# Altium schematic symbol library connector.SchLib: 122 symbols (part 1 of 2)
Pins are listed as number, name and electrical type; pins without a type are passive.

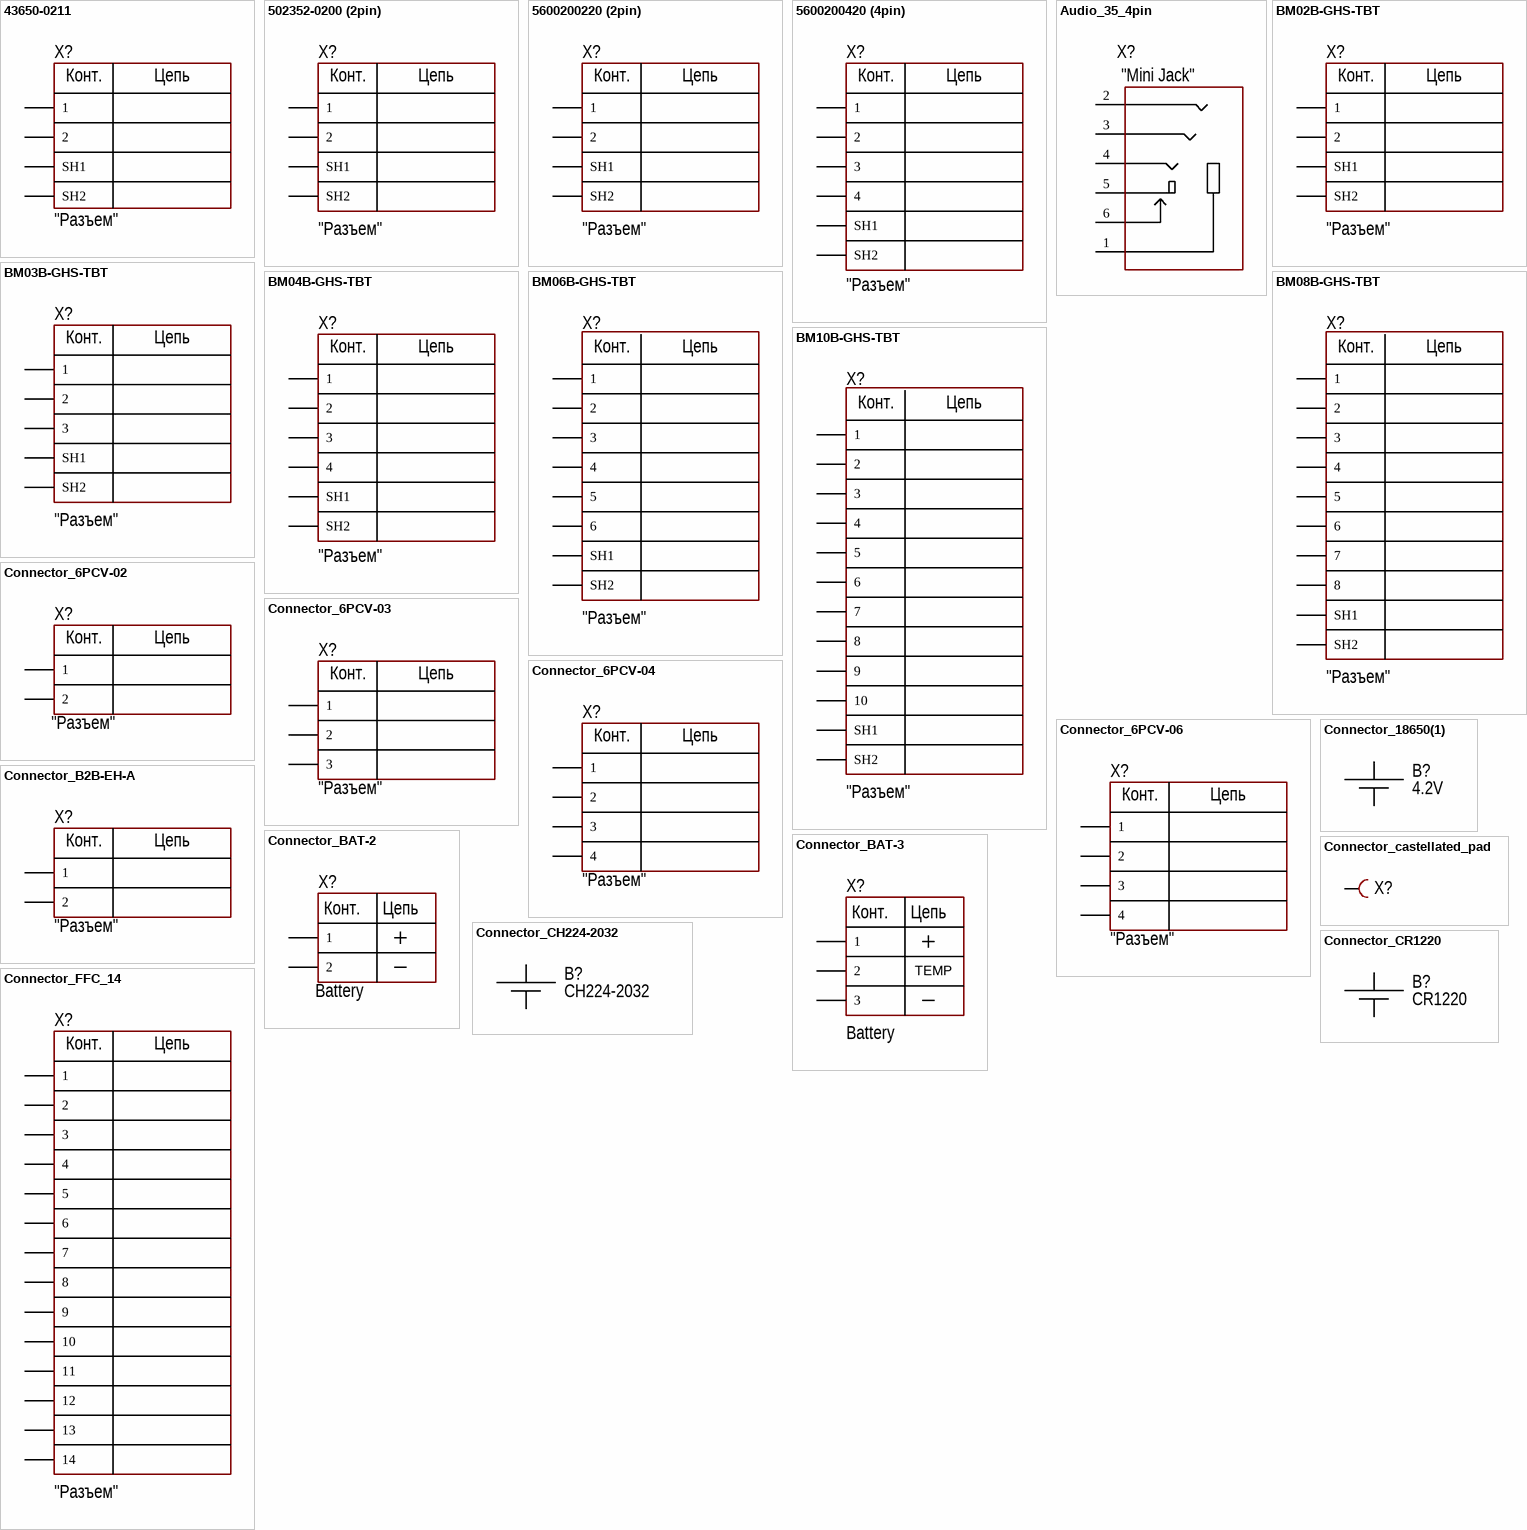
[diagram p0: symbols 43650-0211 to Connector_FFC_14]

## 43650-0211
designator X?  CommentText: "Разъем"
Manufacturer: Molex; ValueManufacturerPartNumber: Connector, 2pin, 3mm, 600VAC, 8.5A; PartNumber: 43650-0211; TypeConnector: Connector; VoltageMax: 600VAC; Pitch: 3mm; CurrentMax: 8.5A; Multichannel: 2pin; HelpURL: https://www.mouser.ee/ProductDetail/Molex/43650-0211?qs=z57USrEQgt0F0sS1hGS9Bw%3D%3D
footprint CON: 43650-0211 (MicroFit 3.0 2pin)
pins: 1, 2, S1 SH1 (power), S2 SH2 (power)
text: Конт.; Цепь

## 502352-0200 (2pin)
designator X?  CommentText: "Разъем"
Manufacturer: Molex; ValueManufacturerPartNumber: Connector, 2pin, 2mm, 125VAC, 3A; PartNumber: 502352-0200; TypeConnector: Connector; VoltageMax: 125VAC; Pitch: 2mm; CurrentMax: 3A; Multichannel: 2pin; HelpURL: https://www.molex.com/en-us/products/part-detail/5023520202?display=pdf
footprint CON: 502352-0200
pins: 1, 2, S1 SH1 (power), S2 SH2 (power)
text: Конт.; Цепь

## 5600200220 (2pin)
designator X?  CommentText: "Разъем"
Manufacturer: Molex; ValueManufacturerPartNumber: Connector, 2pin, 2mm, 125VAC, 3A; PartNumber: 5600200220; TypeConnector: Connector; VoltageMax: 125VAC; Pitch: 2mm; CurrentMax: 3A; Multichannel: 2pin; HelpURL: https://www.molex.com/en-us/products/part-detail/5600200220?display=pdf
footprint CON: 5600200220
pins: 1, 2, S1 SH1 (power), S2 SH2 (power)
text: Конт.; Цепь

## 5600200420 (4pin)
designator X?  CommentText: "Разъем"
Manufacturer: Molex; ValueManufacturerPartNumber: Connector, 4pin, 2mm, 125VAC, 3A; PartNumber: 5600200420; TypeConnector: Connector; VoltageMax: 125VAC; Pitch: 2mm; CurrentMax: 3A; Multichannel: 4pin; HelpURL: https://www.molex.com/en-us/products/part-detail/5600200420?display=pdf
footprint CON: 5600200420
pins: 1, 2, 3, 4, S1 SH1 (power), S2 SH2 (power)
text: Конт.; Цепь

## Audio_35_4pin
designator X?  CommentText: "Mini Jack"
Manufacturer: XKB Connectivity; PartNumber: PJ-3701-SMT; TypeConnector: Connector Audio; HelpURL: https://datasheet.lcsc.com/lcsc/2110112030_XKB-Connectivity-PJ-3701-SMT_C2684645.pdf; ValueManufacturerPartNumber: =TypeConnector+', '+Impedance+', '+Frequency
footprint CON: PJ-3701-SMT (Mini Jack)
pins: 1, 2, 3, 4, 5, 6

## BM02B-GHS-TBT
designator X?  CommentText: "Разъем"
Manufacturer: JST; ValueManufacturerPartNumber: Connector, 2pin, 1.25mm, 500VAC, 1A; PartNumber: BM02B-GHS-TBT; TypeConnector: Connector; VoltageMax: 500VAC; Pitch: 1.25mm; CurrentMax: 1A; Multichannel: 2pin; HelpURL: https://datasheet.lcsc.com/lcsc/2304140030_JST-Sales-America-BM04B-GHS-TBT-LF-SN_C161692.pdf
footprint CON: BM02B-GHS-TBT
pins: 1, 2, S1 SH1 (power), S2 SH2 (power)
text: Конт.; Цепь

## BM03B-GHS-TBT
designator X?  CommentText: "Разъем"
Manufacturer: JST; ValueManufacturerPartNumber: Connector, 3pin, 1.25mm, 500VAC, 1A; PartNumber: BM03B-GHS-TBT; TypeConnector: Connector; VoltageMax: 500VAC; Pitch: 1.25mm; CurrentMax: 1A; Multichannel: 3pin; HelpURL: https://datasheet.lcsc.com/lcsc/2304140030_JST-Sales-America-BM04B-GHS-TBT-LF-SN_C161692.pdf
footprint CON: BM03B-GHS-TBT
pins: 1, 2, 3, S1 SH1 (power), S2 SH2 (power)
text: Конт.; Цепь

## BM04B-GHS-TBT
designator X?  CommentText: "Разъем"
Manufacturer: JST; ValueManufacturerPartNumber: Connector, 4pin, 1.25mm, 500VAC, 1A; PartNumber: BM04B-GHS-TBT; TypeConnector: Connector; VoltageMax: 500VAC; Pitch: 1.25mm; CurrentMax: 1A; Multichannel: 4pin; HelpURL: https://datasheet.lcsc.com/lcsc/2304140030_JST-Sales-America-BM04B-GHS-TBT-LF-SN_C161692.pdf
footprint CON: BM04B-GHS-TBT
pins: 1, 2, 3, 4, S1 SH1 (power), S2 SH2 (power)
text: Конт.; Цепь

## BM06B-GHS-TBT
designator X?  CommentText: "Разъем"
Manufacturer: JST; ValueManufacturerPartNumber: Connector, 6pin, 1.25mm, 500VAC, 1A; PartNumber: BM06B-GHS-TBT; TypeConnector: Connector; VoltageMax: 500VAC; Pitch: 1.25mm; CurrentMax: 1A; Multichannel: 6pin; HelpURL: https://datasheet.lcsc.com/lcsc/2304140030_JST-Sales-America-BM04B-GHS-TBT-LF-SN_C161692.pdf
footprint CON: BM06B-GHS-TBT
pins: 1, 2, 3, 4, 5, 6, S1 SH1 (power), S2 SH2 (power)
text: Конт.; Цепь

## BM08B-GHS-TBT
designator X?  CommentText: "Разъем"
Manufacturer: JST; ValueManufacturerPartNumber: Connector, 8pin, 1.25mm, 500VAC, 1A; PartNumber: BM08B-GHS-TBT; TypeConnector: Connector; VoltageMax: 500VAC; Pitch: 1.25mm; CurrentMax: 1A; Multichannel: 8pin; HelpURL: https://datasheet.lcsc.com/lcsc/2304140030_JST-Sales-America-BM04B-GHS-TBT-LF-SN_C161692.pdf
footprint CON: BM08B-GHS-TBT
pins: 1, 2, 3, 4, 5, 6, 7, 8, S1 SH1 (power), S2 SH2 (power)
text: Конт.; Цепь

## BM10B-GHS-TBT
designator X?  CommentText: "Разъем"
Manufacturer: JST; ValueManufacturerPartNumber: Connector, 10pin, 1.25mm, 500VAC, 1A; PartNumber: BM10B-GHS-TBT; TypeConnector: Connector; VoltageMax: 500VAC; Pitch: 1.25mm; CurrentMax: 1A; Multichannel: 10pin; HelpURL: https://datasheet.lcsc.com/lcsc/2304140030_JST-Sales-America-BM04B-GHS-TBT-LF-SN_C161692.pdf
footprint CON: BM10B-GHS-TBT
pins: 1, 2, 3, 4, 5, 6, 7, 8, 9, 10, S1 SH1 (power), S2 SH2 (power)
text: Конт.; Цепь

## Connector_6PCV-02
designator X?  CommentText: "Разъем"
Manufacturer: TE Connectivity; ValueManufacturerPartNumber: Connector, 2pin, 9.53mm, 300VAC, 25A; PartNumber: 6PCV-02-006; TypeConnector: Connector; VoltageMax: 300VAC; Pitch: 9.53mm; CurrentMax: 25A; Multichannel: 2pin; HelpURL: https://www.digikey.com/products/en?keywords=6PCV-02-006
footprint CON: 6PCV-02-006
pins: 1, 2
text: Конт.; Цепь

## Connector_6PCV-03
designator X?  CommentText: "Разъем"
Manufacturer: TE Connectivity; ValueManufacturerPartNumber: Connector, 3pin, 9.53mm, 300VAC, 25A; PartNumber: 6PCV-03-006; TypeConnector: Connector; VoltageMax: 300VAC; Pitch: 9.53mm; CurrentMax: 25A; Multichannel: 3pin; HelpURL: https://www.digikey.com/products/en?keywords=6PCV-03-006
footprint CON: 6PCV-03-006
pins: 1, 2, 3 (power)
text: Конт.; Цепь

## Connector_6PCV-04
designator X?  CommentText: "Разъем"
Manufacturer: TE Connectivity; ValueManufacturerPartNumber: Connector, 4pin, 9.53mm, 300VAC, 25A; PartNumber: 6PCV-04-006; TypeConnector: Connector; VoltageMax: 300VAC; Pitch: 9.53mm; CurrentMax: 25A; Multichannel: 4pin; HelpURL: https://www.digikey.com/products/en?keywords=6PCV-03-006
footprint CON: 6PCV-04-006
pins: 1, 2, 3 (power), 4 (power)
text: Конт.; Цепь

## Connector_6PCV-06
designator X?  CommentText: "Разъем"
Manufacturer: TE Connectivity; ValueManufacturerPartNumber: Connector, 6pin, 9.53mm, 300VAC, 25A; PartNumber: 6PCV-06-006; TypeConnector: Connector; VoltageMax: 300VAC; Pitch: 9.53mm; CurrentMax: 25A; Multichannel: 6pin; HelpURL: https://www.digikey.com/product-detail/en/te-connectivity-amp-connectors/6PCV-06-006/A98485-ND/1277937
footprint CON: 6PCV-06-006
pins: 1, 2, 3 (power), 4 (power)
text: Конт.; Цепь

## Connector_18650(1)
designator B?  VoltageMax: 4.2V
Manufacturer: ALLOYSEED; ValueManufacturerPartNumber: Single holder 18650, 4.2V; PartNumber: Holder 18650; TypeConnector: Single holder 18650; HelpURL: https://ru.aliexpress.com/item/32814062027.html?spm=2114.13010708.0.0.498333edwmS6ak
footprint CON: HOLDER 18650 x1
pins: 1 + (power), 2 - (power)

## Connector_B2B-EH-A
designator X?  CommentText: "Разъем"
Manufacturer: JST; ValueManufacturerPartNumber: Connector, 2pin, 2.5 mm, 250V, 3A; PartNumber: B2B-EH-A; TypeConnector: Connector; VoltageMax: 250V; Pitch: 2.5 mm; CurrentMax: 3A; Multichannel: 2pin; HelpURL: https://www.digikey.com/product-detail/en/jst-sales-america-inc/B2B-EH-A-LF-SN/455-1611-ND/926520
footprint CON: B2B-EH-A
pins: 1, 2
text: Конт.; Цепь

## Connector_BAT-2
designator X?  CommentText: Battery
TypeConnector: Connector; Pitch: 2mm; Multichannel: 2pin; HelpURL: https://www.chipdip.ru/product/cwf-2r-ds1069-2-mr; ValueManufacturerPartNumber: =TypeConnector+', '+Multichannel+', '+Pitch+', '+VoltageMax+', '+CurrentMax
footprint CON: BAT (2.00)
pins: 1, 2
text: Конт.; Цепь

## Connector_BAT-3
designator X?  CommentText: Battery
TypeConnector: Connector; Pitch: 2mm; Multichannel: 3pin; ValueManufacturerPartNumber: =TypeConnector+', '+Multichannel+', '+Pitch+', '+VoltageMax+', '+CurrentMax
footprint CON: BAT-3 (2.00)
pins: 1, 2, 3
text: Конт.; Цепь; TEMP

## Connector_castellated_pad
designator X?
ValueManufacturerPartNumber: Castellated pad, 4815; PartNumber: 4815; TypeConnector: Castellated pad
footprint CON: Castellated Hole Pad 1.27MM
pins: 1

## Connector_CH224-2032
designator B?  PartNumber: CH224-2032
Manufacturer: KLS; ValueManufacturerPartNumber: Single battery CR2032; CommentText: CR2032; HelpURL: https://www.chipdip.ru/product/bh-642; TypeConnector: Single battery CR2032
footprint BAT: CH224-2032 (пїЅпїЅпїЅпїЅпїЅпїЅпїЅпїЅпїЅпїЅ пїЅпїЅпїЅпїЅпїЅ пїЅпїЅпїЅ пїЅпїЅпїЅпїЅпїЅпїЅпїЅпїЅ 2032)
pins: 1 + (power), 2 - (power)

## Connector_CR1220
designator B?  CommentText: CR1220
Manufacturer: Q&J; ValueManufacturerPartNumber: Single battery CR1220; PartNumber: CR1220-2; HelpURL: https://lcsc.com/product-detail/Battery-Holders-Clips-Contacts_CR1220-2-Battery-horizontal-base_C70381.html; TypeConnector: Single battery CR1220
footprint BAT: CR1220
pins: 1 + (power), 2 - (power)

## Connector_FFC_14
designator X?  CommentText: "Разъем"
Manufacturer: XUNPU; ValueManufacturerPartNumber: Connector, 14pin, 0.5mm, FFC/FPC, Top contact; PartNumber: FPC-05F-14PH15; TypeConnector: Connector; VoltageMax: FFC/FPC; Pitch: 0.5mm; CurrentMax: Top contact; Multichannel: 14pin; HelpURL: https://datasheet.lcsc.com/lcsc/2109221030_XUNPU-FPC-05F-14PH15_C2856818.pdf
footprint CON: XUNPU FPC-05F-14PH15 (FPC 14pin connector)
pins: 1, 2, 3, 4, 5, 6, 7, 8, 9, 10, 11, 12, 13, 14
text: Конт.; Цепь

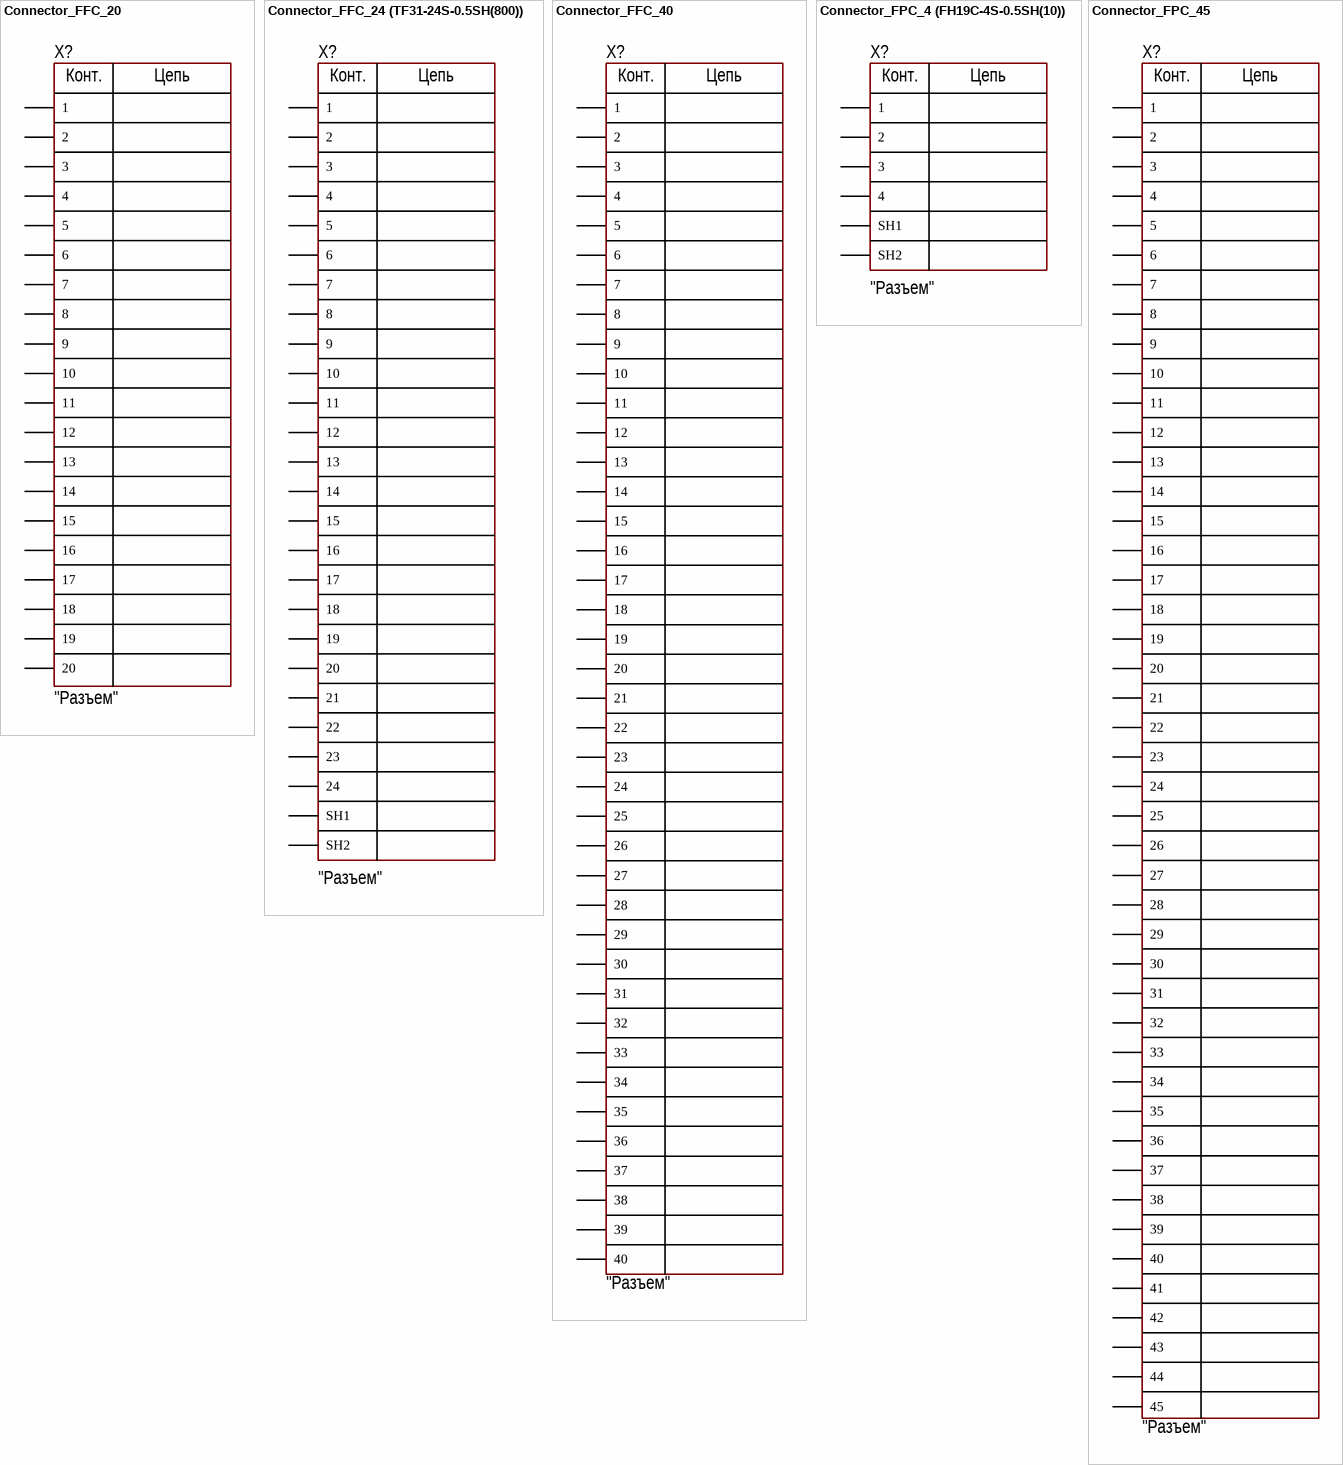
[diagram p1: symbols Connector_FFC_20 to Connector_FPC_45]

## Connector_FFC_20
designator X?  CommentText: "Разъем"
Manufacturer: JUSHUO; ValueManufacturerPartNumber: Connector, 20pin, 0.5mm, FFC/FPC, Top contact; PartNumber: JUSHUO AFC30-S20FCA-00; TypeConnector: Connector; VoltageMax: FFC/FPC; Pitch: 0.5mm; CurrentMax: Top contact; Multichannel: 20pin; HelpURL: https://datasheet.lcsc.com/lcsc/2106070503_JUSHUO-AFC30-S20FCA-00_C2681938.pdf
footprint CON: JUSHUO AFC30-S20FCA-00 (FPC 20pin connector)
pins: 1, 2, 3, 4, 5, 6, 7, 8, 9, 10, 11, 12, 13, 14, 15, 16, 17, 18, 19, 20
text: Конт.; Цепь

## Connector_FFC_24 (TF31-24S-0.5SH(800))
designator X?  CommentText: "Разъем"
Manufacturer: Hirose; ValueManufacturerPartNumber: Connector, 24pin, 0.5mm, FFC/FPC, 0.5A; PartNumber: TF31-24S-0.5SH(800); TypeConnector: Connector; VoltageMax: FFC/FPC; Pitch: 0.5mm; CurrentMax: 0.5A; Multichannel: 24pin; HelpURL: https://www.lcsc.com/datasheet/lcsc_datasheet_2410291517_HRS-Hirose-TF31-24S-0-5SH-800_C3169854.pdf
footprint CON: FFC/FPC-24-0.5(Hirose)
pins: 1, 2, 3, 4, 5, 6, 7, 8, 9, 10, 11, 12, 13, 14, 15, 16, 17, 18, 19, 20, 21, 22, 23, 24, SH1, SH2
text: Конт.; Цепь

## Connector_FFC_40
designator X?  CommentText: "Разъем"
Manufacturer: JUSHUO; ValueManufacturerPartNumber: Connector, 40pin, 0.5mm, FFC/FPC, Top contact; PartNumber: AFC07-S40ECC-00; TypeConnector: Connector; VoltageMax: FFC/FPC; Pitch: 0.5mm; CurrentMax: Top contact; Multichannel: 40pin; HelpURL: https://lcsc.com/product-detail/FFC-FPC-Connectors_JUSHUO-AFC07-S40ECC-00_C11097.html
footprint CON: FFC/FPC-40-0.5
pins: 1, 2, 3, 4, 5, 6, 7, 8, 9, 10, 11, 12, 13, 14, 15, 16, 17, 18, 19, 20, 21, 22, 23, 24, 25, 26, 27, 28, 29, 30, 31, 32, 33, 34, 35, 36, 37, 38, 39, 40
text: Конт.; Цепь

## Connector_FPC_4 (FH19C-4S-0.5SH(10))
designator X?  CommentText: "Разъем"
Manufacturer: Hirose; ValueManufacturerPartNumber: Connector, 4pin, 0.5mm, FFC/FPC, 0.5A; PartNumber: FH19C-4S-0.5SH(10); TypeConnector: Connector; VoltageMax: FFC/FPC; Pitch: 0.5mm; CurrentMax: 0.5A; Multichannel: 4pin; HelpURL: https://www.lcsc.com/datasheet/lcsc_datasheet_2304140030_HRS-Hirose-FH19C-4S-0-5SH-10_C424650.pdf
footprint CON: FH19C-4S-0.5SH(10) (FPC 4pin connector)
pins: 1, 2, 3, 4, SH1, SH2
text: Конт.; Цепь

## Connector_FPC_45
designator X?  CommentText: "Разъем"
Manufacturer: HIROSE; ValueManufacturerPartNumber: FPC/FFC, 45pin, 0.3mm; PartNumber: FH35C-45S-0.3SHW(50); TypeConnector: FPC/FFC; Pitch: 0.3mm; Multichannel: 45pin; HelpURL: https://www.hirose.com/product/p/CL0580-2909-6-50?lang=en
footprint CON: FH35C-45S-0.3SHW(FPC-45)
pins: 1, 2, 3, 4, 5, 6, 7, 8, 9, 10, 11, 12, 13, 14, 15, 16, 17, 18, 19, 20, 21, 22, 23, 24, 25, 26, 27, 28, 29, 30, 31, 32, 33, 34, 35, 36, 37, 38, 39, 40, 41, 42, 43, 44, 45
text: Конт.; Цепь

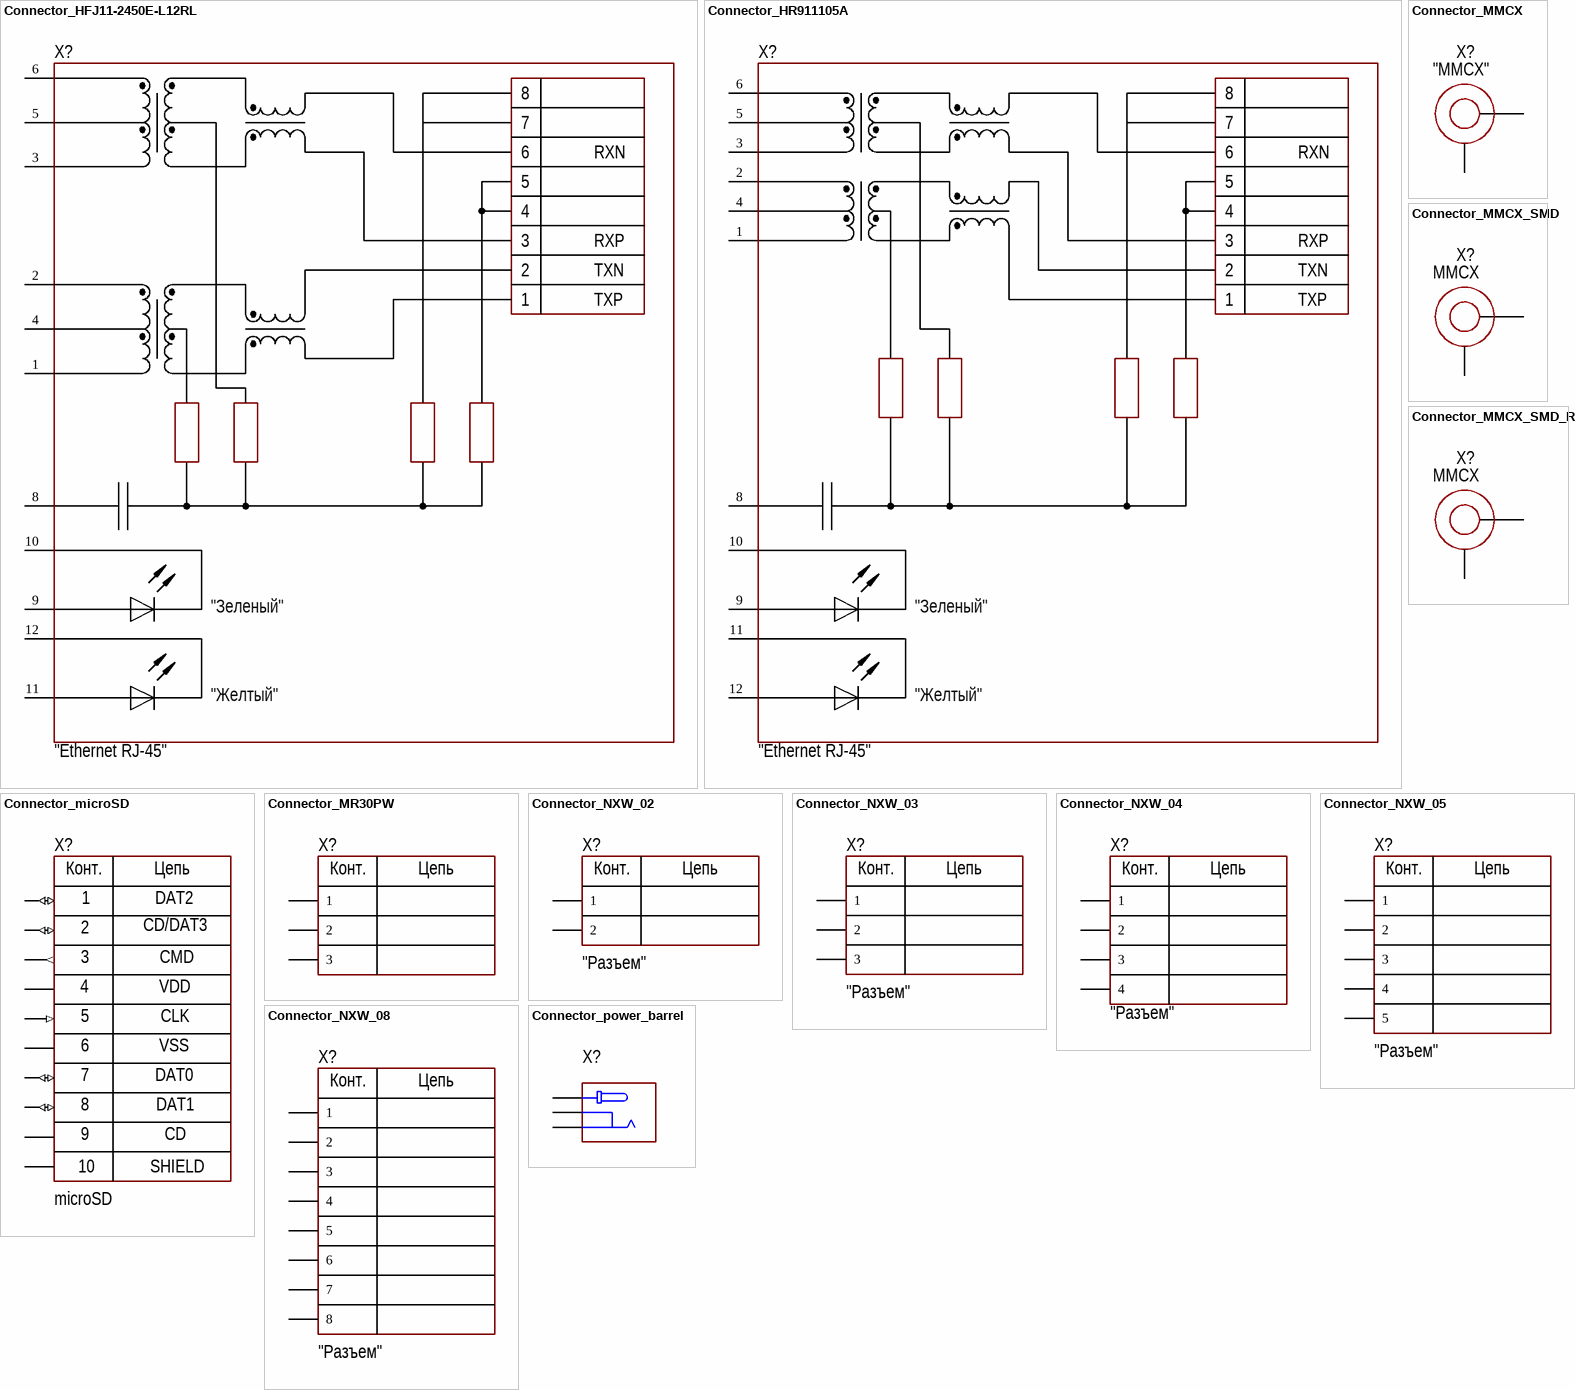
[diagram p2: symbols Connector_HFJ11-2450E-L12RL to Connector_power_barrel]

## Connector_HFJ11-2450E-L12RL
designator X?  CommentText: "Ethernet RJ-45"
Manufacturer: HALO Electronics; ValueManufacturerPartNumber: Etherner RJ-45 connector; PartNumber: HFJ11-2450E-L12RL; HelpURL: https://eu.mouser.com/datasheet/2/706/fastjack-100baset-520317.pdf; TypeConnector: Etherner RJ-45 connector
footprint CON: HFJ11-2450E-L12RL
pins: 1 TD+, 2 TD-, 3 RD+, 4 CT, 5 CT, 6 RD-, 8 GND, 9 D2, 10 D1, 11 D3, 12 D4
text: 7; RXN; RXP; TXN; TXP; "Зеленый"; "Желтый"

## Connector_HR911105A
designator X?  CommentText: "Ethernet RJ-45"
Manufacturer: Hanrun; ValueManufacturerPartNumber: Etherner RJ-45 connector; PartNumber: HR911105A; HelpURL: https://ru.aliexpress.com/item/32244614847.html?spm=a2g0v.search0104.3.9.304d24e7qb4B5g&ws_ab_test=searchweb0_0%2Csearchweb201602_10_10065_10068_319_317_10696_453_10084_454_10083_10618_10307_10301_537_536_10059_10884_10887_321_322_10915_10103_10914_10911_10910%2Csearchweb201603_52%2CppcSwitch_0&algo_expid=ad591376-da58-472d-83c6-21bacd43ef2b-1&algo_pvid=ad591376-da58-472d-83c6-21bacd43ef2b&transAbTest=ae803_5; TypeConnector: Etherner RJ-45 connector
footprint CON: HR911105A
pins: 1 TD+, 2 TD-, 3 RD+, 4 CT, 5 CT, 6 RD-, 8 GND, 9 D2, 10 D1, 11 D3, 12 D4
text: 7; RXN; RXP; TXN; TXP; "Зеленый"; "Желтый"

## Connector_microSD
designator X?  CommentText: microSD
Manufacturer: HOAUC; PartNumber: HYC77-TF09-200; HelpURL: https://lcsc.com/product-detail/Card-Sockets-Connectors_HOAUC-HYC77-TF09-200_C341092.html; ValueManufacturerPartNumber: MicroSD; TypeConnector: MicroSD
footprint CON: MICROSD:HYC77TF09200
pins: 0 SHIELD (power), 1 DAT2 (io), 2 CD/DAT3 (io), 3 CMD (out), 4 VDD (power), 5 CLK (in), 6 VSS (power), 7 DAT0 (io), 8 DAT1 (io), 9 CD (power)
text: Конт.; Цепь; 10

## Connector_MMCX
designator X?  CommentText: "MMCX"
Manufacturer: Samtec; ValueManufacturerPartNumber: Connector MMCX, 50 Ohm, 6GHz; PartNumber: MMCX-J-P-H-ST-MT1; TypeConnector: Connector MMCX; Frequency: 6GHz; Impedance: 50 Ohm; HelpURL: https://www.mouser.ee/datasheet/2/527/mmcx-2854515.pdf
footprint CON: MMCX (MMCX-J-P-H-ST-MT1)
pins: 1, 2

## Connector_MMCX_SMD
designator X?  CommentText: MMCX
Manufacturer: HJ Tech; ValueManufacturerPartNumber: Connector MMCX, 50 Ohm, 6GHz; PartNumber: HJ-MMCX021; TypeConnector: Connector MMCX; Frequency: 6GHz; Impedance: 50 Ohm; HelpURL: https://www.lcsc.com/product-detail/RF-Connectors-Coaxial-Connectors_HJ-Tech-HJ-MMCX021_C6321919.html
footprint CON: CONMMCX001-SMD-T
pins: 0, 1

## Connector_MMCX_SMD_RA
designator X?  CommentText: MMCX
Manufacturer: HJ Tech; ValueManufacturerPartNumber: Connector MMCX, 50 Ohm, 6GHz; PartNumber: HJ-MMCX021; TypeConnector: Connector MMCX; Frequency: 6GHz; Impedance: 50 Ohm; HelpURL: https://www.lcsc.com/product-detail/RF-Connectors-Coaxial-Connectors_HJ-Tech-HJ-MMCX021_C6321919.html
footprint CON: MMCX_SMD_RA
pins: 0, 1

## Connector_MR30PW
designator X?
TypeConnector: Connector; Pitch: 3.5mm; Multichannel: 3pin; HelpURL: https://www.tme.eu/ua/ru/details/mr30pw-fb/razemy-dc/amass/; ValueManufacturerPartNumber: =TypeConnector+', '+Multichannel+', '+Pitch+', '+VoltageMax+', '+CurrentMax
footprint CON: MR30PW-M
pins: 1, 2, 3
text: Конт.; Цепь

## Connector_NXW_02
designator X?  CommentText: "Разъем"
Manufacturer: NINIGI; ValueManufacturerPartNumber: Connector, 2pin, 2mm, 100VAC, 2A; PartNumber: NXW_02; TypeConnector: Connector; VoltageMax: 100VAC; Pitch: 2mm; CurrentMax: 2A; Multichannel: 2pin; HelpURL: http://www.kosmodrom.com.ua/el.php?name=NXW-06SMDK
footprint CON: NXW_02
pins: 1, 2
text: Конт.; Цепь

## Connector_NXW_03
designator X?  CommentText: "Разъем"
Manufacturer: NINIGI; ValueManufacturerPartNumber: Connector, 3pin, 2mm, 100VAC, 2A; PartNumber: NXW_03; TypeConnector: Connector; VoltageMax: 100VAC; Pitch: 2mm; CurrentMax: 2A; Multichannel: 3pin; HelpURL: http://www.kosmodrom.com.ua/el.php?name=NXW-06SMDK
footprint CON: NXW_03
pins: 1, 2, 3 (power)
text: Конт.; Цепь

## Connector_NXW_04
designator X?  CommentText: "Разъем"
Manufacturer: NINIGI; ValueManufacturerPartNumber: Connector, 4pin, 2mm, 100VAC, 2A; PartNumber: NXW_04; TypeConnector: Connector; VoltageMax: 100VAC; Pitch: 2mm; CurrentMax: 2A; Multichannel: 4pin; HelpURL: http://www.kosmodrom.com.ua/el.php?name=NXW-06SMDK
footprint CON: NXW_04
pins: 1, 2, 3 (power), 4 (power)
text: Конт.; Цепь

## Connector_NXW_05
designator X?  CommentText: "Разъем"
Manufacturer: NINIGI; ValueManufacturerPartNumber: Connector, 5pin, 2mm, 100VAC, 2A; PartNumber: NXW_05; TypeConnector: Connector; VoltageMax: 100VAC; Pitch: 2mm; CurrentMax: 2A; Multichannel: 5pin; HelpURL: http://www.kosmodrom.com.ua/el.php?name=NXW-06SMDK
footprint CON: NXW_05
pins: 1, 2, 3 (power), 4 (power), 5 (power)
text: Конт.; Цепь

## Connector_NXW_08
designator X?  CommentText: "Разъем"
Manufacturer: NINIGI; ValueManufacturerPartNumber: Connector, 8pin, 2mm, 100VAC, 2A; PartNumber: NXW_08; TypeConnector: Connector; VoltageMax: 100VAC; Pitch: 2mm; CurrentMax: 2A; Multichannel: 8pin; HelpURL: http://www.kosmodrom.com.ua/el.php?name=NXW-06SMDK
footprint CON: NXW_08
pins: 1, 2, 3 (power), 4 (power), 5 (power), 6 (power), 7 (power), 8 (power)
text: Конт.; Цепь

## Connector_power_barrel
designator X?
TypeConnector: Connector; NeedleDiameter: 2mm; Multichannel: 2pin; HelpURL: https://datasheet.lcsc.com/lcsc/2209051730_G-Switch-DC-005H-D020_C5155559.pdf; ValueManufacturerPartNumber: =TypeConnector+', '+Multichannel+', '+Pitch+', '+VoltageMax+', '+CurrentMax
footprint CON: Barrel-5.5-2.5 (Power Barrel Connector)
pins: 1, 2, 3

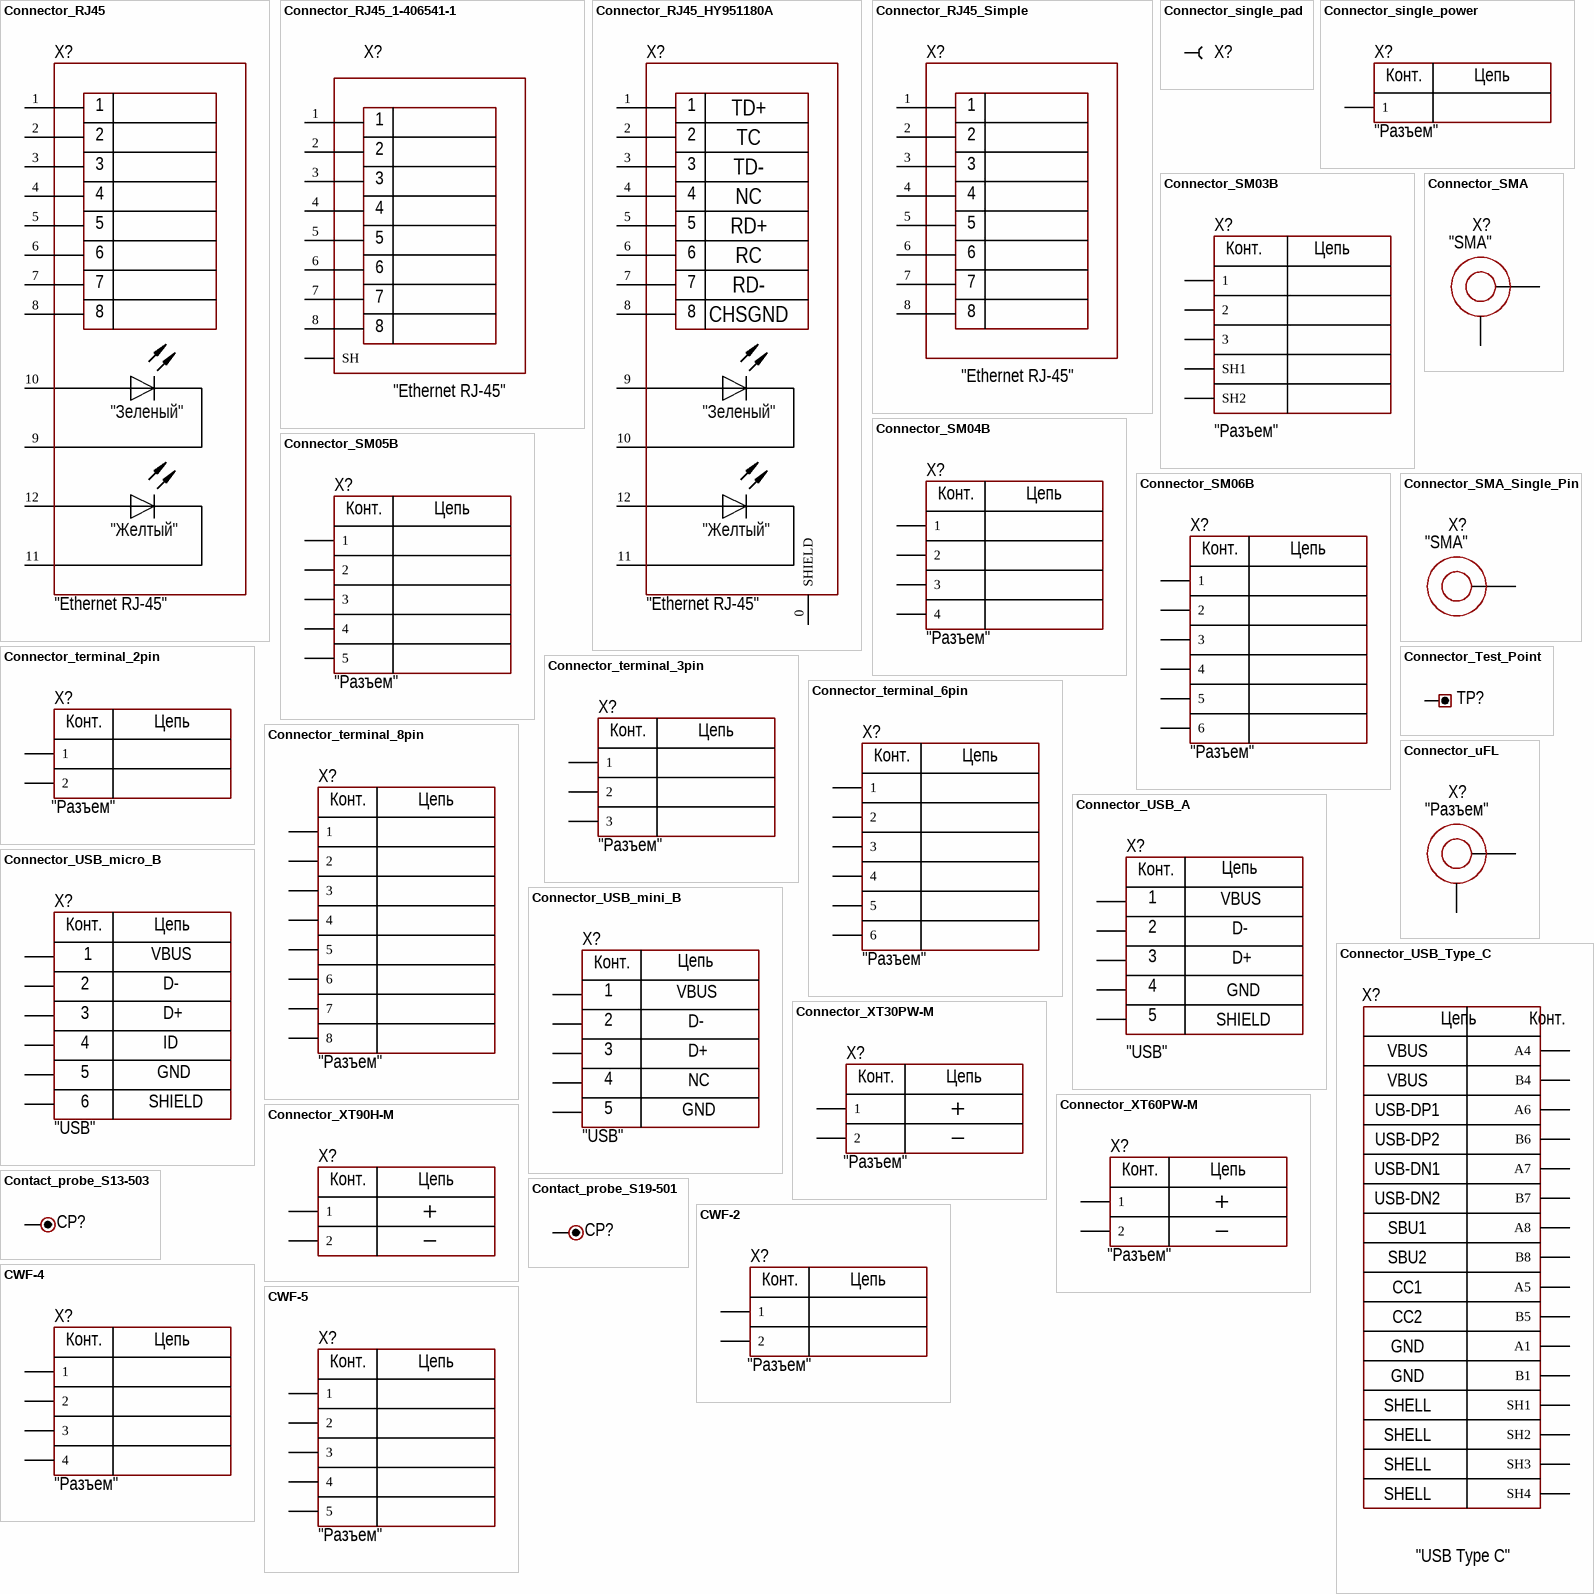
[diagram p3: symbols Connector_RJ45 to CWF-5]

## Connector_RJ45
designator X?  CommentText: "Ethernet RJ-45"
Manufacturer: Wurth; ValueManufacturerPartNumber: Etherner RJ-45 connector; PartNumber: 615008137421; AnalogComponent: DS1128-09-S8B8S (Connfly); HelpURL: https://www.digikey.com/product-detail/en/w-rth-elektronik/615008137421/732-2112-ND/2060608; TypeConnector: Etherner RJ-45 connector
footprint CON: RJ-45 (615008137421 / DS1128-09-S8B8S)
pins: 1 D2, 2 D2, 3 D2, 4 D2, 5 D2, 6 D2, 7 D2, 8 D2, 9 D2, 10 D1, 11 D3, 12 D4
text: "Зеленый"; "Желтый"

## Connector_RJ45_1-406541-1
designator X?  CommentText: "Ethernet RJ-45"
Manufacturer: TE; ValueManufacturerPartNumber: Etherner RJ-45 connector; PartNumber: 1-406541-1; HelpURL: https://www.te.com/commerce/DocumentDelivery/DDEController?Action=srchrtrv&DocNm=406541&DocType=Customer+Drawing&DocLang=English&PartCntxt=1-406541-1&DocFormat=pdf; TypeConnector: Etherner RJ-45 connector
footprint CON: RJ-45 (1-406541-1)
pins: 1 D2, 2 D2, 3 D2, 4 D2, 5 D2, 6 D2, 7 D2, 8 D2, SH

## Connector_RJ45_HY951180A
designator X?  CommentText: "Ethernet RJ-45"
Manufacturer: Wurth; ValueManufacturerPartNumber: Etherner RJ-45 connector; PartNumber: 615008137421; AnalogComponent: DS1128-09-S8B8S (Connfly); HelpURL: https://datasheet.lcsc.com/lcsc/2009291803_HANRUN-Zhongshan-HanRun-Elec-HY951180A_C34677.pdf; TypeConnector: Etherner RJ-45 connector
footprint CON: HY951180A (RJ45 Ethernet horizontal connector)
pins: 0 SHIELD, 1 D2, 2 D2, 3 D2, 4 D2, 5 D2, 6 D2, 7 D2, 8 D2, 9 D1, 10 D2, 11 D3, 12 D4
text: TD+; TC; TD-; NC; RD+; RC; RD-; CHSGND; "Зеленый"; "Желтый"

## Connector_RJ45_Simple
designator X?  CommentText: "Ethernet RJ-45"
Manufacturer: Wurth; ValueManufacturerPartNumber: Etherner RJ-45 connector; PartNumber: 615008137421; AnalogComponent: DS1128-09-S8B8S (Connfly); HelpURL: https://www.digikey.com/product-detail/en/w-rth-elektronik/615008137421/732-2112-ND/2060608; TypeConnector: Etherner RJ-45 connector
footprint CON: RJ-45 (615008137421 / DS1128-09-S8B8S)
pins: 1 D2, 2 D2, 3 D2, 4 D2, 5 D2, 6 D2, 7 D2, 8 D2

## Connector_single_pad
designator X?
ValueManufacturerPartNumber: Castellated pad, 4815; PartNumber: 4815; TypeConnector: Castellated pad
footprint CON: SINGLEPAD (1x2)
footprint CON: SINGLEPAD (5x6)
footprint CON: SINGLEPAD (3x5)
pins: 1

## Connector_single_power
designator X?  CommentText: "Разъем"
ValueManufacturerPartNumber: Power connector, *, *; TypeConnector: Power connector; Manufacturer: *; HelpURL: *; PartNumber: *; VoltageMax: *; CurrentMax: *
footprint CON: 7781
footprint CON: 8191
footprint CON: 7461057
footprint CON: 7461097
footprint CON: 7466005R
footprint CON: TH 1mm
footprint CON: TH 2mm
footprint CON: TH 3.5mm
footprint CON: Tyco 62650-1
footprint CON: 7808
pins: 1
text: Конт.; Цепь

## Connector_SM03B
designator X?  CommentText: "Разъем"
Manufacturer: JST; ValueManufacturerPartNumber: Connector, 3pin, 1.25mm, 50VDC, 1A; PartNumber: SM03B-GHS; TypeConnector: Connector; VoltageMax: 50VDC; Pitch: 1.25mm; CurrentMax: 1A; Multichannel: 3pin; HelpURL: https://www.digikey.com/en/products/detail/jst-sales-america-inc/SM03B-GHS-TB/807787
footprint CON: SM03B-GHS
pins: 1, 2, 3 (power), SH1 (power), SH2 (power)
text: Конт.; Цепь

## Connector_SM04B
designator X?  CommentText: "Разъем"
Manufacturer: JST; ValueManufacturerPartNumber: Connector, 4pin, 1.25mm, 50VDC, 1A; PartNumber: SM04B-GHS; TypeConnector: Connector; VoltageMax: 50VDC; Pitch: 1.25mm; CurrentMax: 1A; Multichannel: 4pin; HelpURL: https://www.digikey.com/product-detail/en/jst-sales-america-inc/SM04B-GHS-TB-LF-SN/455-1566-1-ND/807834
footprint CON: SM04B-GHS
pins: 1, 2, 3 (power), 4 (power)
text: Конт.; Цепь

## Connector_SM05B
designator X?  CommentText: "Разъем"
Manufacturer: JST; ValueManufacturerPartNumber: Connector, 5pin, 1.25mm, 50VDC, 1A; PartNumber: SM05B-GHS; TypeConnector: Connector; VoltageMax: 50VDC; Pitch: 1.25mm; CurrentMax: 1A; Multichannel: 5pin; HelpURL: https://www.digikey.com/product-detail/en/jst-sales-america-inc/SM05B-GHS-TB-LF-SN/455-1567-1-ND/807835
footprint CON: SM05B-GHS
pins: 1, 2, 3 (power), 4 (power), 5 (power)
text: Конт.; Цепь

## Connector_SM06B
designator X?  CommentText: "Разъем"
Manufacturer: JST; ValueManufacturerPartNumber: Connector, 6pin, 1.25mm, 50VDC, 1A; PartNumber: SM06B-GHS; TypeConnector: Connector; VoltageMax: 50VDC; Pitch: 1.25mm; CurrentMax: 1A; Multichannel: 6pin; HelpURL: https://www.digikey.com/product-detail/en/jst-sales-america-inc/SM06B-GHS-TB-LF-SN/455-1568-1-ND/807836
footprint CON: SM06B-GHS
pins: 1, 2, 3 (power), 4 (power), 5 (power), 6 (power)
text: Конт.; Цепь

## Connector_SMA
designator X?  CommentText: "SMA"
Manufacturer: Linx Technologies; ValueManufacturerPartNumber: Connector SMA, 50 Ohm, 0...18 GHz; PartNumber: CONSMA020.062-G; TypeConnector: Connector SMA; Frequency: 0...18 GHz; Impedance: 50 Ohm; HelpURL: https://eu.mouser.com/datasheet/2/238/LNNC_S_A0009753564_1-2551086.pdf
footprint CON: SMA
footprint CON: SMA Edge 0.062"
footprint CON: SMA EDGE VERTICAL
pins: 1, 2

## Connector_SMA_Single_Pin
designator X?  CommentText: "SMA"
Manufacturer: Linx Technologies; ValueManufacturerPartNumber: Connector SMA, 50 Ohm, 0...18 GHz; PartNumber: CONSMA020.062-G; TypeConnector: Connector SMA; Frequency: 0...18 GHz; Impedance: 50 Ohm; HelpURL: https://eu.mouser.com/datasheet/2/238/LNNC_S_A0009753564_1-2551086.pdf
footprint CON: SMA Edge Single Pin
pins: 1

## Connector_terminal_2pin
designator X?  CommentText: "Разъем"
Manufacturer: Degson; ValueManufacturerPartNumber: Terminal connector, 2pin, 3.5mm, 300VAC, 10A; PartNumber: DG350-3.5-02P-14; TypeConnector: Terminal connector; VoltageMax: 300VAC; Pitch: 3.5mm; CurrentMax: 10A; Multichannel: 2pin; HelpURL: https://www.chipdip.ru/product/dg350-3.5-02p-12
footprint CON: DG350-3.5-02P
footprint CON: DG950-9.5-02P
footprint CON: KLS2 (or 691311500002)
footprint CON: 15EDGRC-3.5-02 (or 691322110002) (Horizontal PCB Header, pitch 3.5mm, 02p)
footprint CON: 15EDGVC-3.5-02 (or 691321100002) (Vertical PCB Header, pitch 3.5mm, 02p)
footprint CON: 691313710002
footprint CON: 691322310002
pins: 1, 2
text: Конт.; Цепь

## Connector_terminal_3pin
designator X?  CommentText: "Разъем"
Manufacturer: Degson; ValueManufacturerPartNumber: Terminal connector, 3pin, 3.5mm, 300VAC, 10A; PartNumber: DG350-3.5-03P-14; TypeConnector: Terminal connector; VoltageMax: 300VAC; Pitch: 3.5mm; CurrentMax: 10A; Multichannel: 3pin; HelpURL: https://www.chipdip.ru/product/dg350-3.5-03p-12
footprint CON: DG350-3.5-03P
footprint CON: 15EDGRC-3.5-03 (or 691322110003) (Horizontal PCB Header, pitch 3.5mm, 03p)
footprint CON: 15EDGVC-3.5-03 (or 691321100003) (Vertical PCB Header, pitch 3.5mm, 03p)
pins: 1, 2, 3 (power)
text: Конт.; Цепь

## Connector_terminal_6pin
designator X?  CommentText: "Разъем"
Manufacturer: Degson; ValueManufacturerPartNumber: Terminal connector, 6pin, 3.5mm, 300VAC, 10A; PartNumber: DG350-3.5-06P-14; TypeConnector: Terminal connector; VoltageMax: 300VAC; Pitch: 3.5mm; CurrentMax: 10A; Multichannel: 6pin; HelpURL: https://www.compel.ru/infosheet/DEGSON/DG350-3.5-06P-14-00AH
footprint CON: DG350-3.5-06P
footprint CON: 15EDGRC-3.5-06 (or 691322110006) (Horizontal PCB Header, pitch 3.5mm, 06p)
footprint CON: 15EDGVC-3.5-06 (or 691321100006) (Vertical PCB Header, pitch 3.5mm, 06p)
pins: 1, 2, 3 (power), 4 (power), 5 (power), 6 (power)
text: Конт.; Цепь

## Connector_terminal_8pin
designator X?  CommentText: "Разъем"
Manufacturer: Degson; ValueManufacturerPartNumber: Terminal connector, 6pin, 3.5mm, 300VAC, 10A; PartNumber: DG350-3.5-08P-14; TypeConnector: Terminal connector; VoltageMax: 300VAC; Pitch: 3.5mm; CurrentMax: 10A; Multichannel: 6pin; HelpURL: https://www.compel.ru/infosheet/DEGSON/DG350-3.5-08P-14-00AH
footprint CON: 15EDGRC-3.5-08 (or 691322110008) (Horizontal PCB Header, pitch 3.5mm, 08p)
footprint CON: 15EDGVC-3.5-08 (or 691321100008) (Vertical PCB Header, pitch 3.5mm, 08p)
pins: 1, 2, 3 (power), 4 (power), 5 (power), 6 (power), 7 (power), 8 (power)
text: Конт.; Цепь

## Connector_Test_Point
designator TP?
Manufacturer: Keystone; ValueManufacturerPartNumber: Test point, Keystone, 5001; PartNumber: 5001; TypeConnector: Test point; HelpURL: https://www.digikey.com/product-detail/en/keystone-electronics/5001/36-5001-ND/255327
footprint CON: 5000 (Keystone)
footprint CON: 5001 (Keystone)
footprint CON: 5002 (Keystone)
footprint CON: 5004 (Keystone)
footprint CON: 5116 (Keystone)
footprint CON: TEST POINT 1 MM
footprint CON: Pogo YZP0243-20050-01 (Operational height 3.3mm, length 5mm)
footprint CON: FIDUCIAL
pins: 1

## Connector_uFL
designator X?  CommentText: "Разъем"
Manufacturer: Hirose Electric; ValueManufacturerPartNumber: Connector u.FL, 50 Ohm, 6GHz; PartNumber: U.FL-R-SMT(01); TypeConnector: Connector u.FL; Frequency: 6GHz; Impedance: 50 Ohm; HelpURL: https://www.digikey.com/product-detail/en/hirose-electric-co-ltd/U.FL-R-SMT-01/H9161-ND/513010
footprint CON: u.Fl
pins: 1, 2

## Connector_USB_A
designator X?  CommentText: "USB"
Manufacturer: Molex; ValueManufacturerPartNumber: USB A; PartNumber: 916-262A101BY10200; HelpURL: https://datasheet.lcsc.com/lcsc/2103060234_Jing-Extension-of-the-Electronic-Co-916-262A101BY10200_C168705.pdf; TypeConnector: USB A
footprint CON: USB A Vertical
pins: 0, 1, 2, 3, 4
text: Конт.; Цепь; VBUS; D-; D+; GND; SHIELD; 5

## Connector_USB_micro_B
designator X?  CommentText: "USB"
Manufacturer: Hirose Electric; ValueManufacturerPartNumber: USB micro B; PartNumber: ZX62-B-5PA; HelpURL: https://www.digikey.com/product-detail/en/hirose-electric-co-ltd/ZX62-B-5PA/H11579CT-ND/1851090; TypeConnector: USB micro B
footprint CON: USB micro-A (ZX62-B-5PA)
pins: 0, 1, 2, 3, 4, 5
text: Конт.; Цепь; VBUS; D-; D+; ID; GND; 6; SHIELD

## Connector_USB_mini_B
designator X?  CommentText: "USB"
Manufacturer: Molex; ValueManufacturerPartNumber: USB mini B; PartNumber: 0675031020; HelpURL: https://www.digikey.com/product-detail/en/molex/0675031020/WM5461CT-ND/1624427; TypeConnector: USB mini B
footprint CON: 0675031020
pins: 1, 2, 3, 4, 5
text: Конт.; Цепь; VBUS; D-; D+; NC; GND

## Connector_USB_Type_C
designator X?  CommentText: "USB Type C"
Manufacturer: Korean Hroparts; ValueManufacturerPartNumber: USB Type C, 3A; PartNumber: TYPE-C-31-M-12; TypeConnector: USB Type C; CurrentMax: 3A; HelpURL: https://lcsc.com/product-detail/USB-Type-C_Korean-Hroparts-Elec-TYPE-C-31-M-12_C165948.html
footprint CON: TYPE-C-31-M-12
footprint CON: TYPE-C-SOFNG MC-311S
pins: A1 (power), A4, A5 (power), A6 (power), A7 (power), A8 (power), B1 (power), B4, B5 (power), B6 (power), B7 (power), B8 (power), SH1 (power), SH2 (power), SH3 (power), SH4 (power)
text: Цепь; Конт.; VBUS; USB-DP1; USB-DP2; USB-DN1; USB-DN2; SBU1; SBU2; CC1; CC2; GND; SHELL

## Connector_XT30PW-M
designator X?  CommentText: "Разъем"
Manufacturer: AMASS; ValueManufacturerPartNumber: Power connector, 2pin, 7.2mm, 500V, 60A; PartNumber: XT60PW-M; TypeConnector: Power connector; VoltageMax: 500V; Pitch: 7.2mm; CurrentMax: 60A; Multichannel: 2pin; HelpURL: https://lcsc.com/product-detail/Connectors_Changzhou-Amass-Elec-XT60PW-M_C98732.html
footprint CON: XT30PW-M
footprint CON: XT30 Female
pins: 1, 2
text: Конт.; Цепь

## Connector_XT60PW-M
designator X?  CommentText: "Разъем"
Manufacturer: AMASS; ValueManufacturerPartNumber: Power connector, 2pin, 7.2mm, 500V, 60A; PartNumber: XT60PW-M; TypeConnector: Power connector; VoltageMax: 500V; Pitch: 7.2mm; CurrentMax: 60A; Multichannel: 2pin; HelpURL: https://lcsc.com/product-detail/Connectors_Changzhou-Amass-Elec-XT60PW-M_C98732.html
footprint CON: XT60PW-M
pins: 1, 2
text: Конт.; Цепь

## Connector_XT90H-M
designator X?
TypeConnector: Connector; Pitch: 11mm; Multichannel: 2pin; HelpURL: https://docs.rs-online.com/9688/A700000008956747.pdf; ValueManufacturerPartNumber: =TypeConnector+', '+Multichannel+', '+Pitch+', '+VoltageMax+', '+CurrentMax
footprint CON: XT90H-F
pins: 1, 2
text: Конт.; Цепь

## Contact_probe_S13-503
designator CP?
Receptacle 1.27mm minimal pitch; Manufacturer: Harwin; ValueManufacturerPartNumber: Contact Probe, Harwin, S13-503; PartNumber: S13-503; TypeConnector: Contact Probe; HelpURL: https://www.mouser.ee/datasheet/2/181/S13-503-1291272.pdf
footprint CON: CP S13-503 (Contact Probe, min pitch 1.27mm)
pins: 1

## Contact_probe_S19-501
designator CP?
Receptacle 1.9mm minimal pitch; Manufacturer: Harwin; ValueManufacturerPartNumber: Contact Probe, Harwin, S19-501; PartNumber: S19-501; TypeConnector: Contact Probe; HelpURL: https://www.mouser.ee/datasheet/2/181/S13-503-1291272.pdf
footprint CON: CP S19-501 (Contact Probe, min pitch 1.9mm)
pins: 1

## CWF-2
designator X?  CommentText: "Разъем"
Manufacturer: Connfly; ValueManufacturerPartNumber: Connector, 2pin, 2.54mm, 250VAC, 3A; PartNumber: CWF-2R; TypeConnector: Connector; VoltageMax: 250VAC; Pitch: 2.54mm; CurrentMax: 3A; Multichannel: 2pin; HelpURL: https://www.chipdip.ru/product/cwf-2r-ds1069-2-mr
footprint CON: CWF-2
footprint CON: CWF-2R
footprint CON: XH2.54-SMD
pins: 1, 2
text: Конт.; Цепь

## CWF-4
designator X?  CommentText: "Разъем"
Manufacturer: Connfly; ValueManufacturerPartNumber: Connector, 4pin, 2.54mm, 250VAC, 3A; PartNumber: CWF-4R; TypeConnector: Connector; VoltageMax: 250VAC; Pitch: 2.54mm; CurrentMax: 3A; Multichannel: 4pin; HelpURL: https://www.chipdip.ru/product/cwf-4r-ds1069-4-mr
footprint CON: CWF-4
footprint CON: CWF-4R
pins: 1, 2, 3 (power), 4 (power)
text: Конт.; Цепь

## CWF-5
designator X?  CommentText: "Разъем"
Manufacturer: Connfly; ValueManufacturerPartNumber: Connector, 5pin, 2.54mm, 250VAC, 3A; PartNumber: CWF-5R; TypeConnector: Connector; VoltageMax: 250VAC; Pitch: 2.54mm; CurrentMax: 3A; Multichannel: 5pin; HelpURL: https://www.chipdip.ru/product1/8001781597
footprint CON: CWF-5
footprint CON: CWF-5R
pins: 1, 2, 3 (power), 4 (power), 5 (power)
text: Конт.; Цепь

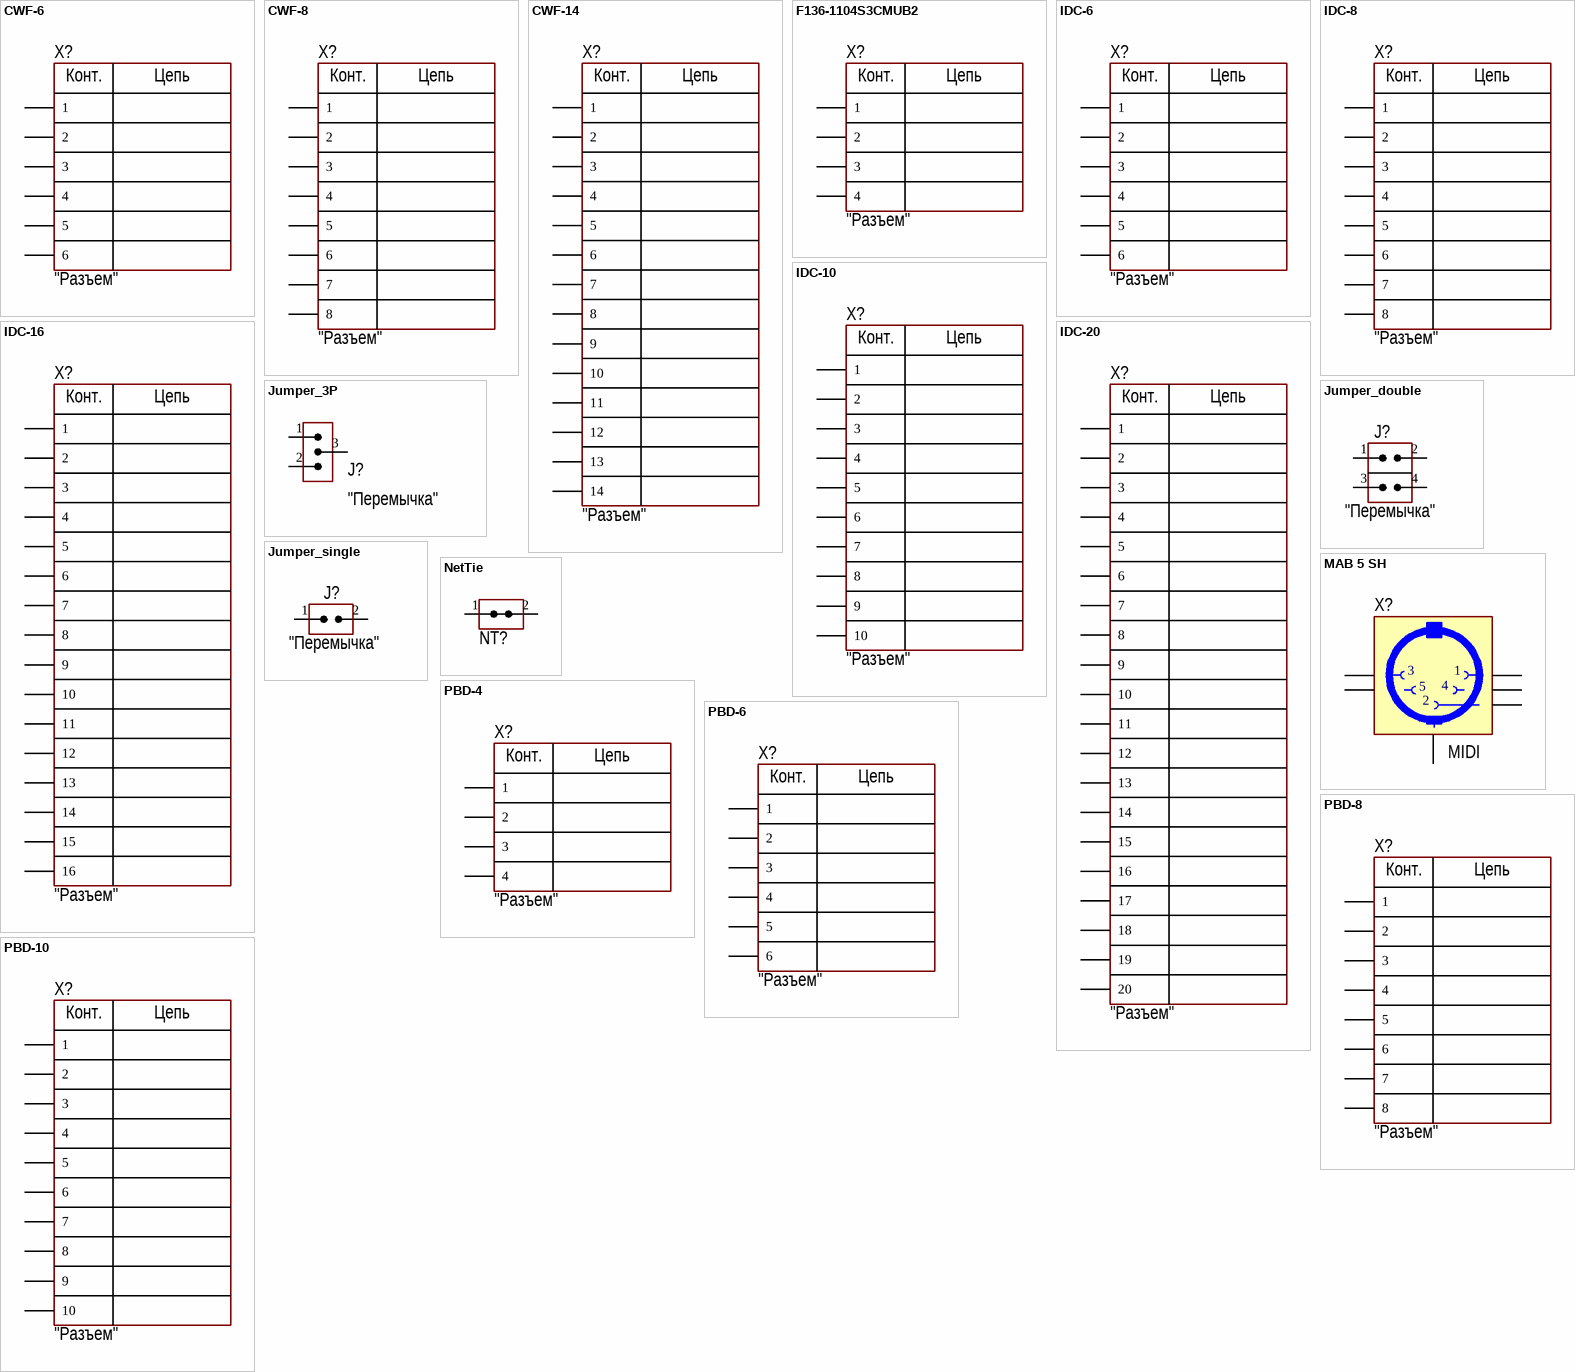
[diagram p4: symbols CWF-6 to PBD-10]

## CWF-6
designator X?  CommentText: "Разъем"
Manufacturer: Connfly; ValueManufacturerPartNumber: Connector, 6pin, 2.54mm, 250VAC, 3A; PartNumber: CWF-6R; TypeConnector: Connector; VoltageMax: 250VAC; Pitch: 2.54mm; CurrentMax: 3A; Multichannel: 6pin; HelpURL: https://www.chipdip.ru/product/cwf-6r-ds1069-6-mr
footprint CON: CWF-6
footprint CON: CWF-6R
pins: 1, 2, 3 (power), 4 (power), 5 (power), 6 (power)
text: Конт.; Цепь

## CWF-8
designator X?  CommentText: "Разъем"
Manufacturer: Connfly; ValueManufacturerPartNumber: Connector, 8pin, 2.5mm, 250VAC, 3A; PartNumber: CWF-8; TypeConnector: Connector; VoltageMax: 250VAC; Pitch: 2.5mm; CurrentMax: 3A; Multichannel: 8pin; HelpURL: https://www.chipdip.ru/product/cwf-8
footprint CON: CWF-8
footprint CON: CWF-8R
pins: 1, 2, 3 (power), 4 (power), 5 (power), 6 (power), 7 (power), 8 (power)
text: Конт.; Цепь

## CWF-14
designator X?  CommentText: "Разъем"
Manufacturer: Connfly; ValueManufacturerPartNumber: Connector, 14pin, 2.5mm, 250VAC, 3A; PartNumber: CWF-14; TypeConnector: Connector; VoltageMax: 250VAC; Pitch: 2.5mm; CurrentMax: 3A; Multichannel: 14pin; HelpURL: https://www.chipdip.ru/product/cwf-14
footprint CON: CWF-14
pins: 1, 2, 3 (power), 4 (power), 5 (power), 6 (power), 7 (power), 8 (power), 9 (power), 10 (power), 11 (power), 12 (power), 13 (power), 14 (power)
text: Конт.; Цепь

## F136-1104S3CMUB2
designator X?  CommentText: "Разъем"
Manufacturer: Yxcon; ValueManufacturerPartNumber: Connector, 4pin, 2.54mm, 500VAC, 3A; PartNumber: F136-1104S3CMUB2; TypeConnector: Connector; VoltageMax: 500VAC; Pitch: 2.54mm; CurrentMax: 3A; Multichannel: 4pin; Plating: Gold; HelpURL: https://www.lcsc.com/datasheet/lcsc_datasheet_2312291746_Yxcon-F136-1104S3CMUB2_C20071191.pdf
footprint CON: PBS-4 (SMD) (Yxcon F136-1104S3CMUB2)
pins: 1, 2, 3 (power), 4 (power)
text: Конт.; Цепь

## IDC-6
designator X?  CommentText: "Разъем"
Manufacturer: Connfly; ValueManufacturerPartNumber: Connector, 6pin, 2.54mm, 250VAC, 3A; PartNumber: IDC-6; TypeConnector: Connector; VoltageMax: 250VAC; Pitch: 2.54mm; CurrentMax: 3A; Multichannel: 6pin; HelpURL: https://ru.aliexpress.com/item/1719644716.html?spm=a2g0v.search0104.3.23.4d9c1bc6xlIt6Q&ws_ab_test=searchweb0_0%2Csearchweb201602_10_10065_10068_319_317_10696_453_10084_454_10083_10618_10307_10301_537_536_10059_10884_10887_321_322_10915_10103_10914_10911_10910%2Csearchweb201603_52%2CppcSwitch_0&algo_expid=18a75006-9775-490c-9b34-8e5eba9edd8d-3&algo_pvid=18a75006-9775-490c-9b34-8e5eba9edd8d&transAbTest=ae803_5
footprint CON: IDC-6MS (IDC-6MS 6 pin PCB-mount connector)
pins: 1, 2, 3 (power), 4 (power), 5 (power), 6 (power)
text: Конт.; Цепь

## IDC-8
designator X?  CommentText: "Разъем"
Manufacturer: Connfly; ValueManufacturerPartNumber: Connector, 8pin, 2.54mm, 250VAC, 3A; PartNumber: IDC-8; TypeConnector: Connector; VoltageMax: 250VAC; Pitch: 2.54mm; CurrentMax: 3A; Multichannel: 8pin; HelpURL: https://ru.aliexpress.com/item/32844529829.html?spm=a2g0v.search0104.3.71.2aab7ea5RAoRWf&ws_ab_test=searchweb0_0%2Csearchweb201602_10_10065_10068_319_317_10696_453_10084_454_10083_10618_10307_10301_537_536_10059_10884_10887_321_322_10915_10103_10914_10911_10910%2Csearchweb201603_52%2CppcSwitch_0&algo_expid=63c39673-c933-4d26-b04d-b3f9765a9d8b-10&algo_pvid=63c39673-c933-4d26-b04d-b3f9765a9d8b&transAbTest=ae803_5
footprint CON: IDC-8MS
pins: 1, 2, 3 (power), 4 (power), 5 (power), 6 (power), 7 (power), 8 (power)
text: Конт.; Цепь

## IDC-10
designator X?  CommentText: "Разъем"
Manufacturer: Connfly; ValueManufacturerPartNumber: Connector, 10pin, 2.54mm, 250VAC, 3A; PartNumber: IDC-10; TypeConnector: Connector; VoltageMax: 250VAC; Pitch: 2.54mm; CurrentMax: 3A; Multichannel: 10pin; HelpURL: https://www.chipdip.ru/product/idc-10ms
footprint CON: IDC-10MS (IDC-10MS 10 pin PCB-mount header)
pins: 1, 2, 3 (power), 4 (power), 5 (power), 6 (power), 7 (power), 8 (power), 9 (power), 10 (power)
text: Конт.; Цепь

## IDC-16
designator X?  CommentText: "Разъем"
Manufacturer: Connfly; ValueManufacturerPartNumber: Connector, 16pin, 2.54mm, 250VAC, 3A; PartNumber: IDC-16; TypeConnector: Connector; VoltageMax: 250VAC; Pitch: 2.54mm; CurrentMax: 3A; Multichannel: 16pin; HelpURL: https://www.chipdip.ru/product/idc-16ms
footprint CON: IDC-16MS (IDC-16MS straight leads pcb mount)
pins: 1, 2, 3 (power), 4 (power), 5 (power), 6 (power), 7 (power), 8 (power), 9 (power), 10 (power), 11 (power), 12 (power), 13 (power), 14 (power), 15 (power), 16 (power)
text: Конт.; Цепь

## IDC-20
designator X?  CommentText: "Разъем"
Manufacturer: Connfly; ValueManufacturerPartNumber: Connector, 20pin, 2.54mm, 250VAC, 3A; PartNumber: IDC-20; TypeConnector: Connector; VoltageMax: 250VAC; Pitch: 2.54mm; CurrentMax: 3A; Multichannel: 20pin; HelpURL: https://www.chipdip.ru/product/idc-20ms
footprint CON: IDC-20MS
pins: 1, 2, 3 (power), 4 (power), 5 (power), 6 (power), 7 (power), 8 (power), 9 (power), 10 (power), 11 (power), 12 (power), 13 (power), 14 (power), 15 (power), 16 (power), 17 (power), 18 (power), 19 (power), 20 (power)
text: Конт.; Цепь

## Jumper_3P
designator J?  CommentText: "Перемычка"
footprint CON: JUMPER_P3
footprint CON: JUMPER_PBD3
pins: 1 IN, 2 IN, 3 OUT

## Jumper_double
designator J?  CommentText: "Перемычка"
footprint CON: JUMPER x2
footprint CON: PLD-4
pins: 1 IN, 2 IN, 3 IN, 4 IN

## Jumper_single
designator J?  CommentText: "Перемычка"
footprint CON: JUMPER x1
footprint CON: PLS-2
pins: 1 IN, 2 IN

## MAB 5 SH
designator X?  CommentText: MIDI
Manufacturer: NINIGI; ValueManufacturerPartNumber: Connector, 5pin, 2mm, 34VAC, 4A; PartNumber: MAB 5 SH; TypeConnector: Connector; VoltageMax: 34VAC; Pitch: 2mm; CurrentMax: 4A; Multichannel: 5pin; HelpURL: https://www.mouser.ee/datasheet/2/46/Belden_06112018_MAB_5_SH-1370803.pdf
footprint CON: MAB5SH (MIDI)
pins: 0, 1, 2, 3, 4, 5

## NetTie
designator NT?
CommentText: "Перемычка"
footprint CON: NT (Net Tie 1)
pins: 1 IN, 2 IN

## PBD-4
designator X?  CommentText: "Разъем"
Manufacturer: Connfly; ValueManufacturerPartNumber: Connector, 4pin, 2.54mm, 500VAC, 3A; PartNumber: PBD-4; TypeConnector: Connector; VoltageMax: 500VAC; Pitch: 2.54mm; CurrentMax: 3A; Multichannel: 4pin; HelpURL: https://www.chipdip.ru/product/pbd-4
footprint CON: PBD-4 (2.00) (PBD-4)
footprint CON: PBD-4 (2.54) (PBD-4)
pins: 1, 2, 3 (power), 4 (power)
text: Конт.; Цепь

## PBD-6
designator X?  CommentText: "Разъем"
Manufacturer: Connfly; ValueManufacturerPartNumber: Connector, 6pin, 2.54mm, 500VAC, 3A; PartNumber: PBD-6; TypeConnector: Connector; VoltageMax: 500VAC; Pitch: 2.54mm; CurrentMax: 3A; Multichannel: 6pin; HelpURL: https://www.chipdip.ru/product/pbd-6
footprint CON: PBD-6 (PBD-6)
footprint CON: PBD-6R
pins: 1, 2, 3 (power), 4 (power), 5 (power), 6 (power)
text: Конт.; Цепь

## PBD-8
designator X?  CommentText: "Разъем"
Manufacturer: Connfly; ValueManufacturerPartNumber: Connector, 8pin, 2.54mm, 500VAC, 3A; PartNumber: PBD-8; TypeConnector: Connector; VoltageMax: 500VAC; Pitch: 2.54mm; CurrentMax: 3A; Multichannel: 8pin; HelpURL: https://www.chipdip.ru/product/pbd-8
footprint CON: PBD-8 (PBD-8)
pins: 1, 2, 3 (power), 4 (power), 5 (power), 6 (power), 7 (power), 8 (power)
text: Конт.; Цепь

## PBD-10
designator X?  CommentText: "Разъем"
Manufacturer: Connfly; ValueManufacturerPartNumber: Connector, 10pin, 2.54mm, 500VAC, 3A; PartNumber: PBD-10; TypeConnector: Connector; VoltageMax: 500VAC; Pitch: 2.54mm; CurrentMax: 3A; Multichannel: 10pin; HelpURL: https://www.chipdip.ru/product/pbd-10
footprint CON: PBD-10
pins: 1, 2, 3 (power), 4 (power), 5 (power), 6 (power), 7 (power), 8 (power), 9 (power), 10 (power)
text: Конт.; Цепь

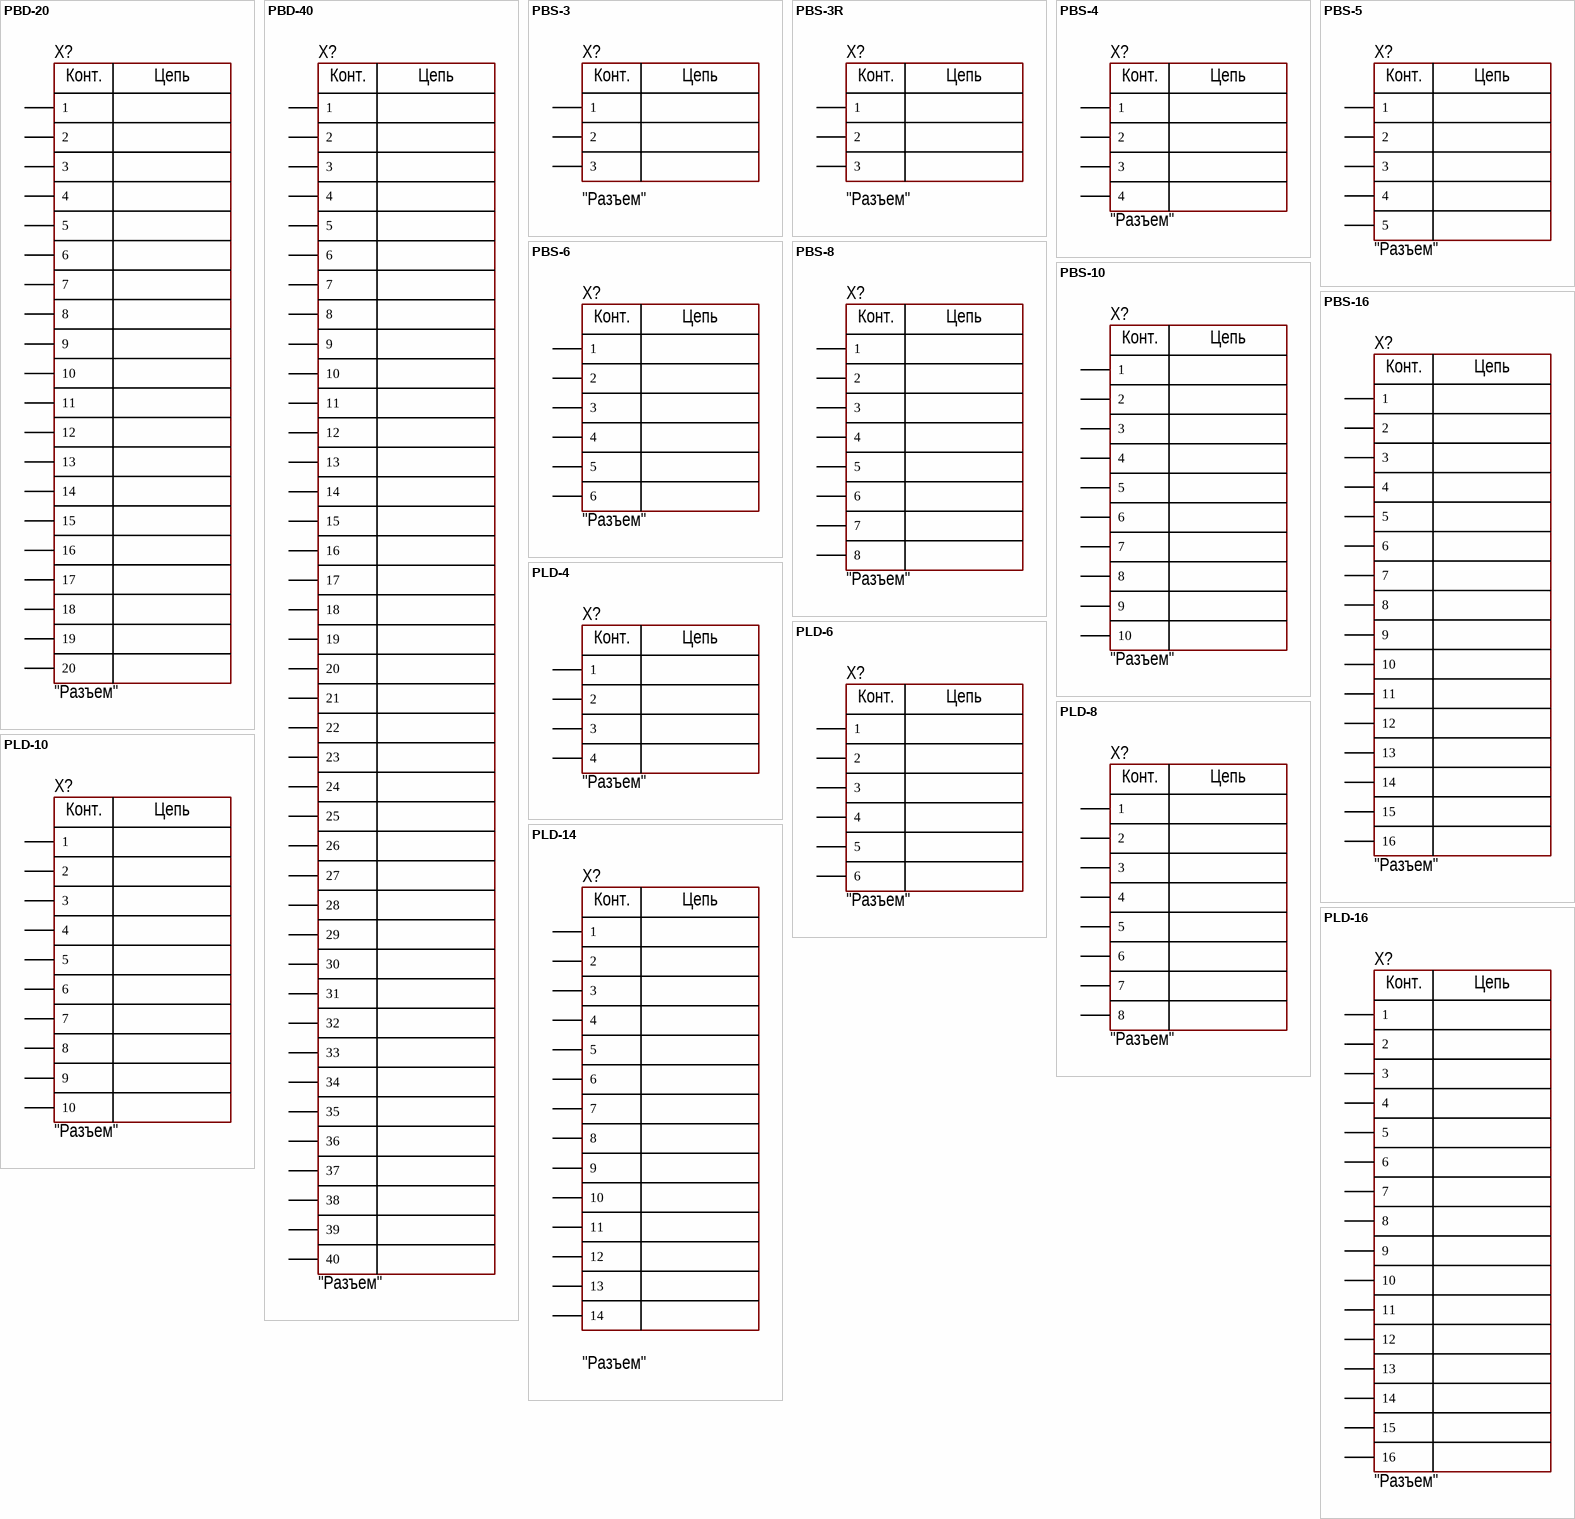
[diagram p5: symbols PBD-20 to PLD-16]

## PBD-20
designator X?  CommentText: "Разъем"
Manufacturer: Connfly; ValueManufacturerPartNumber: Connector, 20pin, 2.54mm, 500VAC, 3A; PartNumber: PBD-20; TypeConnector: Connector; VoltageMax: 500VAC; Pitch: 2.54mm; CurrentMax: 3A; Multichannel: 20pin; HelpURL: https://www.chipdip.ru/product/pbd-20
footprint CON: PBD-20
footprint CON: PBD-20R (PBD-20R)
pins: 1, 2, 3 (power), 4 (power), 5 (power), 6 (power), 7 (power), 8 (power), 9 (power), 10 (power), 11 (power), 12 (power), 13 (power), 14 (power), 15 (power), 16 (power), 17 (power), 18 (power), 19 (power), 20 (power)
text: Конт.; Цепь

## PBD-40
designator X?  CommentText: "Разъем"
Manufacturer: Connfly; ValueManufacturerPartNumber: Connector, 20pin, 2.54mm, 500VAC, 3A; PartNumber: PLS-20; TypeConnector: Connector; VoltageMax: 500VAC; Pitch: 2.54mm; CurrentMax: 3A; Multichannel: 20pin; HelpURL: https://www.chipdip.ru/product/pls-20
footprint CON: PBD-40 (2.00)
footprint CON: PBD-40 (2.54)
pins: 1, 2, 3, 4, 5, 6, 7, 8, 9, 10, 11, 12, 13, 14, 15, 16, 17, 18, 19, 20, 21, 22, 23, 24, 25, 26, 27, 28, 29, 30, 31, 32, 33, 34, 35, 36, 37, 38, 39, 40
text: Конт.; Цепь

## PBS-3
designator X?  CommentText: "Разъем"
Manufacturer: Connfly; ValueManufacturerPartNumber: Connector, 4pin, 2.54mm, 500VAC, 3A; PartNumber: PBS-3; TypeConnector: Connector; VoltageMax: 500VAC; Pitch: 2.54mm; CurrentMax: 3A; Multichannel: 4pin; HelpURL: https://www.chipdip.ru/product/pbs-4
footprint CON: PBS-3 (PBS-3)
pins: 1, 2, 3 (power)
text: Конт.; Цепь

## PBS-3R
designator X?  CommentText: "Разъем"
Manufacturer: Connfly; ValueManufacturerPartNumber: Connector, 4pin, 2.54mm, 500VAC, 3A; PartNumber: PBS-3R; TypeConnector: Connector; VoltageMax: 500VAC; Pitch: 2.54mm; CurrentMax: 3A; Multichannel: 4pin; HelpURL: https://www.chipdip.ru/product/pbs-4
footprint CON: PBS-3R (PBS-3R)
pins: 1, 2, 3 (power)
text: Конт.; Цепь

## PBS-4
designator X?  CommentText: "Разъем"
Manufacturer: Connfly; ValueManufacturerPartNumber: Connector, 4pin, 2.54mm, 500VAC, 3A; PartNumber: PBS-4; TypeConnector: Connector; VoltageMax: 500VAC; Pitch: 2.54mm; CurrentMax: 3A; Multichannel: 4pin; HelpURL: https://www.chipdip.ru/product/pbs-4
footprint CON: PBS-4 (PBS-5)
pins: 1, 2, 3 (power), 4 (power)
text: Конт.; Цепь

## PBS-5
designator X?  CommentText: "Разъем"
Manufacturer: Connfly; ValueManufacturerPartNumber: Connector, 5pin, 2.54mm, 500VAC, 3A; PartNumber: PBS-5; TypeConnector: Connector; VoltageMax: 500VAC; Pitch: 2.54mm; CurrentMax: 3A; Multichannel: 5pin; HelpURL: https://www.chipdip.ru/product/pbs-5
footprint CON: PBS-5 (PBS-5)
pins: 1, 2, 3 (power), 4 (power), 5 (power)
text: Конт.; Цепь

## PBS-6
designator X?  CommentText: "Разъем"
Manufacturer: Connfly; ValueManufacturerPartNumber: Connector, 6pin, 2.54mm, 500VAC, 3A; PartNumber: PBS-6; TypeConnector: Connector; VoltageMax: 500VAC; Pitch: 2.54mm; CurrentMax: 3A; Multichannel: 6pin; HelpURL: https://www.chipdip.ru/product/pbs-6
footprint CON: PBS-6 (PBS-6)
pins: 1, 2, 3 (power), 4 (power), 5 (power), 6 (power)
text: Конт.; Цепь

## PBS-8
designator X?  CommentText: "Разъем"
Manufacturer: Connfly; ValueManufacturerPartNumber: Connector, 8pin, 2.54mm, 500VAC, 3A; PartNumber: PBS-8; TypeConnector: Connector; VoltageMax: 500VAC; Pitch: 2.54mm; CurrentMax: 3A; Multichannel: 8pin; HelpURL: https://www.chipdip.ru/product/pbs-8
footprint CON: PBS-8 (PBS-8)
pins: 1, 2, 3 (power), 4 (power), 5 (power), 6 (power), 7 (power), 8 (power)
text: Конт.; Цепь

## PBS-10
designator X?  CommentText: "Разъем"
Manufacturer: Connfly; ValueManufacturerPartNumber: Connector, 10pin, 2.54mm, 500VAC, 3A; PartNumber: PBS-10; TypeConnector: Connector; VoltageMax: 500VAC; Pitch: 2.54mm; CurrentMax: 3A; Multichannel: 10pin; HelpURL: https://www.chipdip.ru/product/pbs-10
footprint CON: PBS-10 (PBS-10)
pins: 1, 2, 3 (power), 4 (power), 5 (power), 6 (power), 7 (power), 8 (power), 9 (power), 10 (power)
text: Конт.; Цепь

## PBS-16
designator X?  CommentText: "Разъем"
Manufacturer: Connfly; ValueManufacturerPartNumber: Connector, 16pin, 2.54mm, 500VAC, 3A; PartNumber: PBS-16; TypeConnector: Connector; VoltageMax: 500VAC; Pitch: 2.54mm; CurrentMax: 3A; Multichannel: 16pin; HelpURL: https://www.chipdip.ru/product/pbs16
footprint CON: PBS-16 (PBS-16)
pins: 1, 2, 3 (power), 4 (power), 5 (power), 6 (power), 7 (power), 8 (power), 9 (power), 10 (power), 11 (power), 12 (power), 13 (power), 14 (power), 15 (power), 16 (power)
text: Конт.; Цепь

## PLD-4
designator X?  CommentText: "Разъем"
Manufacturer: Connfly; ValueManufacturerPartNumber: Connector, 6pin, 2.54mm, 500VAC, 3A; PartNumber: PLD-4; TypeConnector: Connector; VoltageMax: 500VAC; Pitch: 2.54mm; CurrentMax: 3A; Multichannel: 6pin; HelpURL: https://www.chipdip.ru/product/pld-6
footprint CON: PLD-4
footprint CON: PLD-4R
pins: 1, 2, 3 (power), 4 (power)
text: Конт.; Цепь

## PLD-6
designator X?  CommentText: "Разъем"
Manufacturer: Connfly; ValueManufacturerPartNumber: Connector, 6pin, 2.54mm, 500VAC, 3A; PartNumber: PLD-6; TypeConnector: Connector; VoltageMax: 500VAC; Pitch: 2.54mm; CurrentMax: 3A; Multichannel: 6pin; HelpURL: https://www.chipdip.ru/product/pld-6
footprint CON: PLD-6
footprint CON: PLD-6R
pins: 1, 2, 3 (power), 4 (power), 5 (power), 6 (power)
text: Конт.; Цепь

## PLD-8
designator X?  CommentText: "Разъем"
Manufacturer: Connfly; ValueManufacturerPartNumber: Connector, 8pin, 2.54mm, 500VAC, 3A; PartNumber: PLD-8; TypeConnector: Connector; VoltageMax: 500VAC; Pitch: 2.54mm; CurrentMax: 3A; Multichannel: 8pin; HelpURL: https://www.chipdip.ru/product/pld-8-ds1021-2x4
footprint CON: PLD-8 (PLD-40 8 pin header)
footprint CON: PLD-8R (PLD-40 8 pin header)
pins: 1, 2, 3 (power), 4 (power), 5 (power), 6 (power), 7 (power), 8 (power)
text: Конт.; Цепь

## PLD-10
designator X?  CommentText: "Разъем"
Manufacturer: Connfly; ValueManufacturerPartNumber: Connector, 10pin, 2.54mm, 500VAC, 3A; PartNumber: PLD-10; TypeConnector: Connector; VoltageMax: 500VAC; Pitch: 2.54mm; CurrentMax: 3A; Multichannel: 10pin; HelpURL: https://www.chipdip.ru/product/pld-10
footprint CON: PLD-10
footprint CON: PLD-10R
pins: 1, 2, 3 (power), 4 (power), 5 (power), 6 (power), 7 (power), 8 (power), 9 (power), 10 (power)
text: Конт.; Цепь

## PLD-14
designator X?  CommentText: "Разъем"
Manufacturer: Connfly; ValueManufacturerPartNumber: Connector, 10pin, 2.54mm, 500VAC, 3A; PartNumber: PLD-14; TypeConnector: Connector; VoltageMax: 500VAC; Pitch: 2.54mm; CurrentMax: 3A; Multichannel: 10pin; HelpURL: https://www.chipdip.ru/product/pld-10
footprint CON: PLD-14
pins: 1, 2, 3, 4, 5, 6, 7, 8, 9, 10, 11, 12, 13, 14
text: Конт.; Цепь

## PLD-16
designator X?  CommentText: "Разъем"
Manufacturer: Connfly; ValueManufacturerPartNumber: Connector, 16pin, 2.54mm, 500VAC, 3A; PartNumber: PLD-16; TypeConnector: Connector; VoltageMax: 500VAC; Pitch: 2.54mm; CurrentMax: 3A; Multichannel: 16pin; HelpURL: https://www.chipdip.ru/product/pld-10
footprint CON: PLD-16
pins: 1, 2, 3, 4, 5, 6, 7, 8, 9, 10, 11, 12, 13, 14, 15, 16
text: Конт.; Цепь

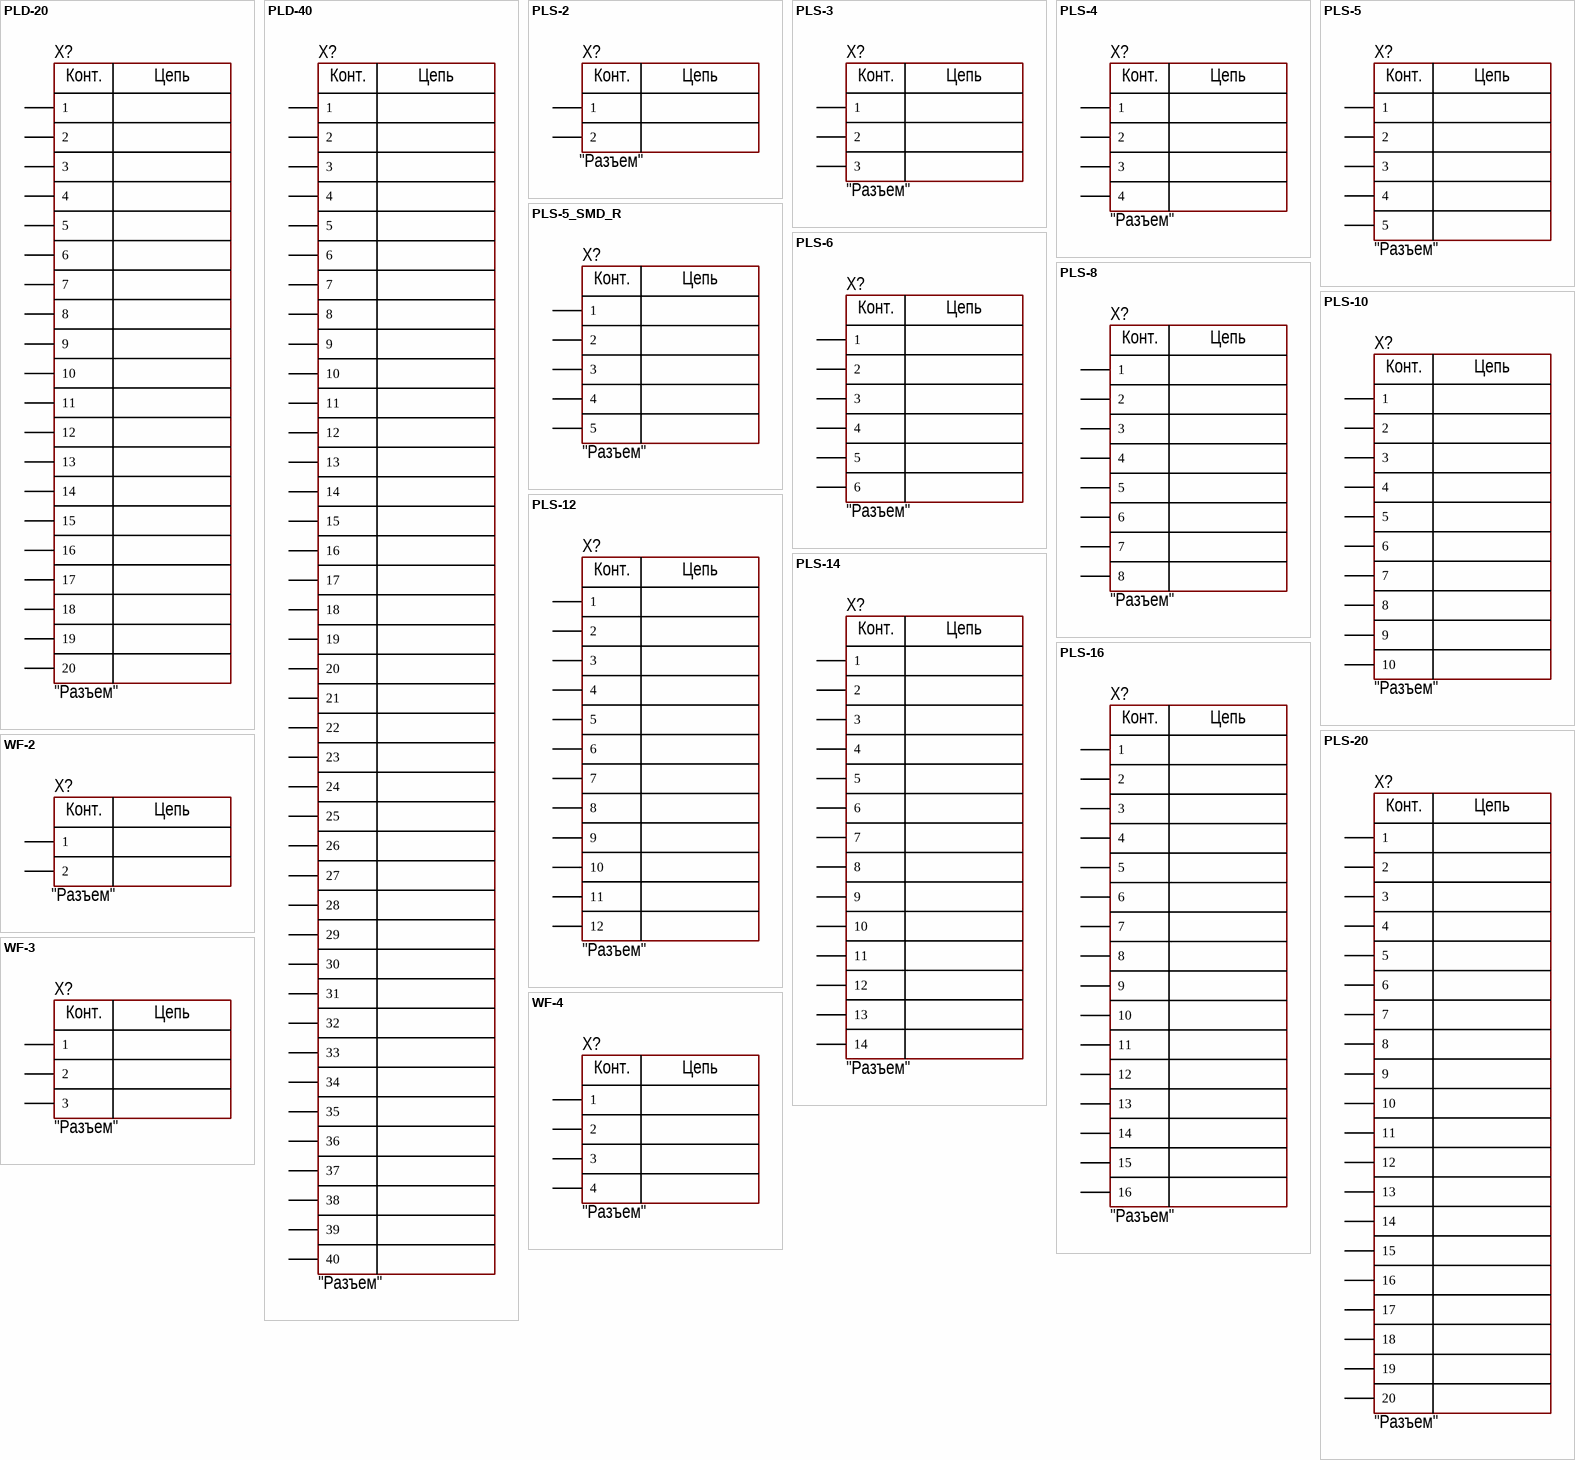
[diagram p6: symbols PLD-20 to WF-4]

## PLD-20
designator X?  CommentText: "Разъем"
Manufacturer: Connfly; ValueManufacturerPartNumber: Connector, 20pin, 2.54mm, 500VAC, 3A; PartNumber: PLD-20; TypeConnector: Connector; VoltageMax: 500VAC; Pitch: 2.54mm; CurrentMax: 3A; Multichannel: 20pin; HelpURL: https://www.chipdip.ru/product/pld-20
footprint CON: PLD-20
pins: 1, 2, 3 (power), 4 (power), 5 (power), 6 (power), 7 (power), 8 (power), 9 (power), 10 (power), 11 (power), 12 (power), 13 (power), 14 (power), 15 (power), 16 (power), 17 (power), 18 (power), 19 (power), 20 (power)
text: Конт.; Цепь

## PLD-40
designator X?  CommentText: "Разъем"
Manufacturer: Connfly; ValueManufacturerPartNumber: Connector, 40pin, 2mm, 500VAC, 3A; PartNumber: PLD-40; TypeConnector: Connector; VoltageMax: 500VAC; Pitch: 2mm; CurrentMax: 3A; Multichannel: 40pin; HelpURL: https://www.chipdip.ru/product/pld2-40
footprint CON: PLD-40 (2.00)
footprint CON: PLD-40 (2.54)
pins: 1, 2, 3, 4, 5, 6, 7, 8, 9, 10, 11, 12, 13, 14, 15, 16, 17, 18, 19, 20, 21, 22, 23, 24, 25, 26, 27, 28, 29, 30, 31, 32, 33, 34, 35, 36, 37, 38, 39, 40
text: Конт.; Цепь

## PLS-2
designator X?  CommentText: "Разъем"
Manufacturer: Connfly; ValueManufacturerPartNumber: Connector, 2pin, 2.54mm, 500VAC, 3A; PartNumber: PLS-2; TypeConnector: Connector; VoltageMax: 500VAC; Pitch: 2.54mm; CurrentMax: 3A; Multichannel: 2pin; HelpURL: https://www.chipdip.ru/product/pls-2
footprint CON: PLS-2
pins: 1, 2
text: Конт.; Цепь

## PLS-3
designator X?  CommentText: "Разъем"
Manufacturer: Connfly; ValueManufacturerPartNumber: Connector, 3pin, 2.54mm, 500VAC, 3A; PartNumber: PLS-3; TypeConnector: Connector; VoltageMax: 500VAC; Pitch: 2.54mm; CurrentMax: 3A; Multichannel: 3pin; HelpURL: https://www.chipdip.ru/product/pls-3
footprint CON: PLS-3
footprint CON: PLS-3R
pins: 1, 2, 3 (power)
text: Конт.; Цепь

## PLS-4
designator X?  CommentText: "Разъем"
Manufacturer: Connfly; ValueManufacturerPartNumber: Connector, 4pin, 2.54mm, 500VAC, 3A; PartNumber: PLS-4; TypeConnector: Connector; VoltageMax: 500VAC; Pitch: 2.54mm; CurrentMax: 3A; Multichannel: 4pin; HelpURL: https://www.chipdip.ru/product/pls-4
footprint CON: PLS-4 (PLS-40 4 pin header)
pins: 1, 2, 3 (power), 4 (power)
text: Конт.; Цепь

## PLS-5
designator X?  CommentText: "Разъем"
Manufacturer: Connfly; ValueManufacturerPartNumber: Connector, 5pin, 2.54mm, 500VAC, 3A; PartNumber: PLS-5; TypeConnector: Connector; VoltageMax: 500VAC; Pitch: 2.54mm; CurrentMax: 3A; Multichannel: 5pin; HelpURL: https://www.chipdip.ru/product/pls-5
footprint CON: PLS-5
pins: 1, 2, 3 (power), 4 (power), 5 (power)
text: Конт.; Цепь

## PLS-5_SMD_R
designator X?  CommentText: "Разъем"
Manufacturer: XKB Connection; ValueManufacturerPartNumber: Connector, 5pin, 2.54mm, 250VAC, 3A; PartNumber: X6511WRS-05H-C60D48; TypeConnector: Connector; VoltageMax: 250VAC; Pitch: 2.54mm; CurrentMax: 3A; Multichannel: 5pin; HelpURL: https://www.lcsc.com/datasheet/lcsc_datasheet_2211031130_XKB-Connection-X6511WRS-05H-C60D48_C5242198.pdf
footprint CON: PLS-5 SMD R
pins: 1, 2, 3 (power), 4 (power), 5 (power)
text: Конт.; Цепь

## PLS-6
designator X?  CommentText: "Разъем"
Manufacturer: Connfly; ValueManufacturerPartNumber: Connector, 6pin, 2.54mm, 500VAC, 3A; PartNumber: PLS-6; TypeConnector: Connector; VoltageMax: 500VAC; Pitch: 2.54mm; CurrentMax: 3A; Multichannel: 6pin; HelpURL: https://www.chipdip.ru/product/pls-6
footprint CON: PLS-6
pins: 1, 2, 3 (power), 4 (power), 5 (power), 6 (power)
text: Конт.; Цепь

## PLS-8
designator X?  CommentText: "Разъем"
Manufacturer: Connfly; ValueManufacturerPartNumber: Connector, 8pin, 2.54mm, 500VAC, 3A; PartNumber: PLS-8; TypeConnector: Connector; VoltageMax: 500VAC; Pitch: 2.54mm; CurrentMax: 3A; Multichannel: 8pin; HelpURL: https://www.chipdip.ru/product/pls-8-ds1021-1-8sf112
footprint CON: PLS-8 (PLS-40 8 pin header)
pins: 1, 2, 3 (power), 4 (power), 5 (power), 6 (power), 7 (power), 8 (power)
text: Конт.; Цепь

## PLS-10
designator X?  CommentText: "Разъем"
Manufacturer: Connfly; ValueManufacturerPartNumber: Connector, 10pin, 2.54mm, 500VAC, 3A; PartNumber: PLS-10; TypeConnector: Connector; VoltageMax: 500VAC; Pitch: 2.54mm; CurrentMax: 3A; Multichannel: 10pin; HelpURL: https://www.chipdip.ru/product/pls-10
footprint CON: PLS-10 (PLS-40 10 pin header)
pins: 1, 2, 3 (power), 4 (power), 5 (power), 6 (power), 7 (power), 8 (power), 9 (power), 10 (power)
text: Конт.; Цепь

## PLS-12
designator X?  CommentText: "Разъем"
Manufacturer: Connfly; ValueManufacturerPartNumber: Connector, 12pin, 2.54mm, 500VAC, 3A; PartNumber: PLS-12; TypeConnector: Connector; VoltageMax: 500VAC; Pitch: 2.54mm; CurrentMax: 3A; Multichannel: 12pin; HelpURL: https://www.chipdip.ru/product/pls-12
footprint CON: PLS-12 (PLS-40 12 pin header)
pins: 1, 2, 3 (power), 4 (power), 5 (power), 6 (power), 7 (power), 8 (power), 9 (power), 10 (power), 11 (power), 12 (power)
text: Конт.; Цепь